# Altium integrated library Xilinx Automotive IQ.IntLib: 78 symbols (part 4 of 7)
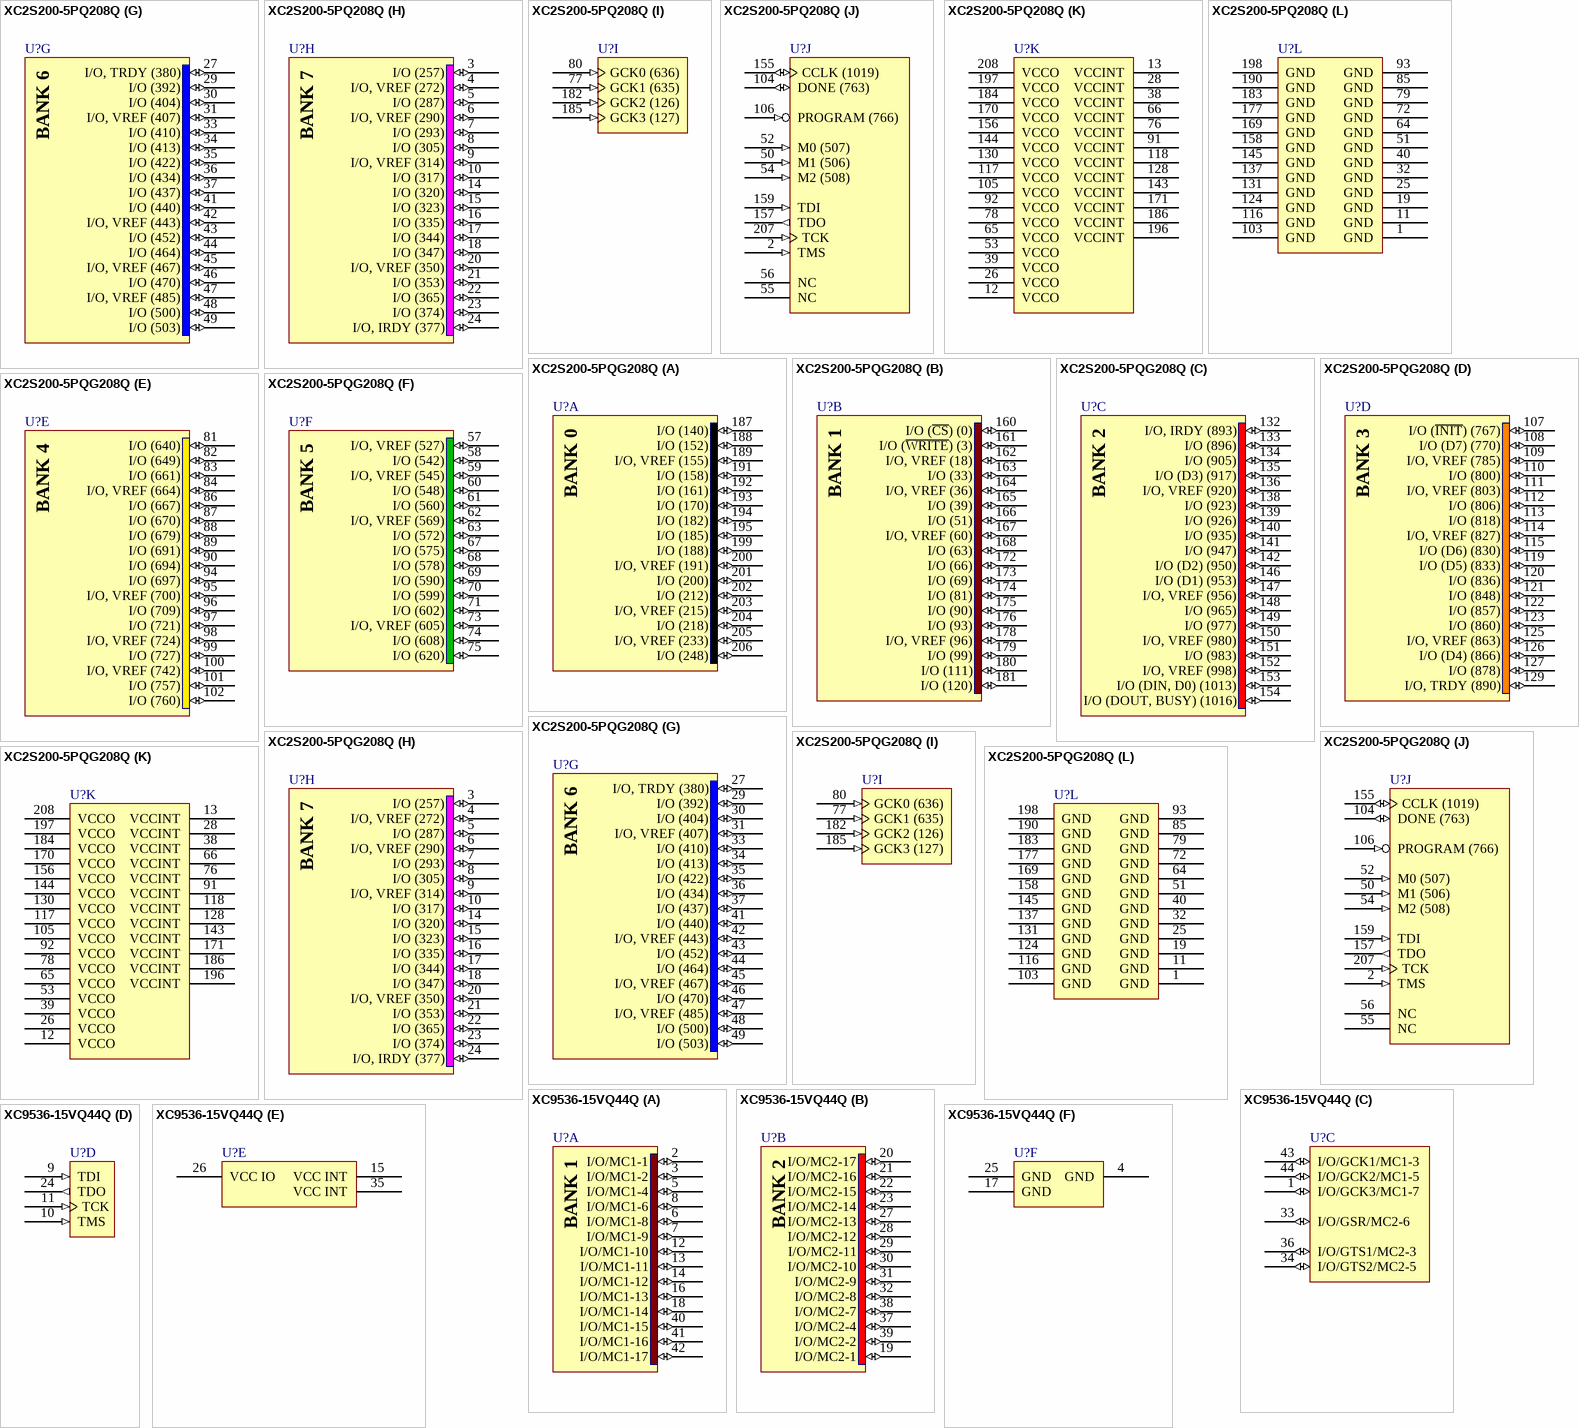
[diagram p40: symbols XC2S200-5PQ208Q to XC9536-15VQ44Q]

## XC2S200-5PQ208Q
designator U?
Automotive IQ Spartan-II 2.5V FPGA, 140 User I/Os, 208-Pin PQFP, Standard Performance, Q Grade; DatasheetVersion: ver1.4, Oct-2004; PackageVersion: ver1.2, Jun-2004; PackageReference: PQ208; PackageDescription: 208-Pin Plastic Quad Flat Pack (PQ208); Code_JEDEC: MS-029-FA-1; ComponentLink1Description: Manufacturer URL; ComponentLink1URL: http://www.xilinx.com/; ComponentLink2Description: Spartan-II Automotive IQ Datasheet; ComponentLink2URL: http://www.xilinx.com/support/documentation/data_sheets/ds105-1.pdf; ComponentLink3Description: Pinout; ComponentLink3URL: http://www.xilinx.com/support/documentation/data_sheets/ds001.pdf; ComponentLink4Description: PQ208 Package Drawing; ComponentLink4URL: http://www.xilinx.com/support/documentation/package_specs/pq208.pdf; ComponentLink5Description: Automotive IQ Documents; ComponentLink5URL: http://www.xilinx.com/support/documentation/automotive_iq_devices.htm
footprint PQ208_N (Shrink QFP, 208-Leads, Body 28x28mm, Pitch 0.5mm, IPC Medium Density)
footprint PQ208_L (Shrink QFP, 208-Leads, Body 28x28mm, Pitch 0.5mm, IPC High Density)
footprint PQ208_M (Shrink QFP, 208-Leads, Body 28x28mm, Pitch 0.5mm, IPC Low Density)
part A pins: 187 I/O (140) (io), 188 I/O (152) (io), 189 I/O, VREF (155) (io), 191 I/O (158) (io), 192 I/O (161) (io), 193 I/O (170) (io), 194 I/O (182) (io), 195 I/O (185) (io), 199 I/O (188) (io), 200 I/O, VREF (191) (io), 201 I/O (200) (io), 202 I/O (212) (io), 203 I/O, VREF (215) (io), 204 I/O (218) (io), 205 I/O, VREF (233) (io), 206 I/O (248) (io)
part B pins: 160 I/O (~{CS}) (0) (io), 161 I/O (~{WRITE}) (3) (io), 162 I/O, VREF (18) (io), 163 I/O (33) (io), 164 I/O, VREF (36) (io), 165 I/O (39) (io), 166 I/O (51) (io), 167 I/O, VREF (60) (io), 168 I/O (63) (io), 172 I/O (66) (io), 173 I/O (69) (io), 174 I/O (81) (io), 175 I/O (90) (io), 176 I/O (93) (io), 178 I/O, VREF (96) (io), 179 I/O (99) (io), 180 I/O (111) (io), 181 I/O (120) (io)
part C pins: 132 I/O, IRDY (893) (io), 133 I/O (896) (io), 134 I/O (905) (io), 135 I/O (D3) (917) (io), 136 I/O, VREF (920) (io), 138 I/O (923) (io), 139 I/O (926) (io), 140 I/O (935) (io), 141 I/O (947) (io), 142 I/O (D2) (950) (io), 146 I/O (D1) (953) (io), 147 I/O, VREF (956) (io), 148 I/O (965) (io), 149 I/O (977) (io), 150 I/O, VREF (980) (io), 151 I/O (983) (io), 152 I/O, VREF (998) (io), 153 I/O (DIN, D0) (1013) (io), 154 I/O (DOUT, BUSY) (1016) (io)
part D pins: 107 I/O (~{INIT}) (767) (io), 108 I/O (D7) (770) (io), 109 I/O, VREF (785) (io), 110 I/O (800) (io), 111 I/O, VREF (803) (io), 112 I/O (806) (io), 113 I/O (818) (io), 114 I/O, VREF (827) (io), 115 I/O (D6) (830) (io), 119 I/O (D5) (833) (io), 120 I/O (836) (io), 121 I/O (848) (io), 122 I/O (857) (io), 123 I/O (860) (io), 125 I/O, VREF (863) (io), 126 I/O (D4) (866) (io), 127 I/O (878) (io), 129 I/O, TRDY (890) (io)
part E pins: 81 I/O (640) (io), 82 I/O (649) (io), 83 I/O (661) (io), 84 I/O, VREF (664) (io), 86 I/O (667) (io), 87 I/O (670) (io), 88 I/O (679) (io), 89 I/O (691) (io), 90 I/O (694) (io), 94 I/O (697) (io), 95 I/O, VREF (700) (io), 96 I/O (709) (io), 97 I/O (721) (io), 98 I/O, VREF (724) (io), 99 I/O (727) (io), 100 I/O, VREF (742) (io), 101 I/O (757) (io), 102 I/O (760) (io)
part F pins: 57 I/O, VREF (527) (io), 58 I/O (542) (io), 59 I/O, VREF (545) (io), 60 I/O (548) (io), 61 I/O (560) (io), 62 I/O, VREF (569) (io), 63 I/O (572) (io), 67 I/O (575) (io), 68 I/O (578) (io), 69 I/O (590) (io), 70 I/O (599) (io), 71 I/O (602) (io), 73 I/O, VREF (605) (io), 74 I/O (608) (io), 75 I/O (620) (io)
part G pins: 27 I/O, TRDY (380) (io), 29 I/O (392) (io), 30 I/O (404) (io), 31 I/O, VREF (407) (io), 33 I/O (410) (io), 34 I/O (413) (io), 35 I/O (422) (io), 36 I/O (434) (io), 37 I/O (437) (io), 41 I/O (440) (io), 42 I/O, VREF (443) (io), 43 I/O (452) (io), 44 I/O (464) (io), 45 I/O, VREF (467) (io), 46 I/O (470) (io), 47 I/O, VREF (485) (io), 48 I/O (500) (io), 49 I/O (503) (io)
part H pins: 3 I/O (257) (io), 4 I/O, VREF (272) (io), 5 I/O (287) (io), 6 I/O, VREF (290) (io), 7 I/O (293) (io), 8 I/O (305) (io), 9 I/O, VREF (314) (io), 10 I/O (317) (io), 14 I/O (320) (io), 15 I/O (323) (io), 16 I/O (335) (io), 17 I/O (344) (io), 18 I/O (347) (io), 20 I/O, VREF (350) (io), 21 I/O (353) (io), 22 I/O (365) (io), 23 I/O (374) (io), 24 I/O, IRDY (377) (io)
part I pins: 77 GCK1 (635) (in), 80 GCK0 (636) (in), 182 GCK2 (126) (in), 185 GCK3 (127) (in)
part J pins: 2 TMS (in), 50 M1 (506) (in), 52 M0 (507) (in), 54 M2 (508) (in), 55 NC, 56 NC, 104 DONE (763) (io), 106 PROGRAM (766) (in), 155 CCLK (1019) (io), 157 TDO (out), 159 TDI (in), 207 TCK (in)
part K pins: 12 VCCO (power), 13 VCCINT (power), 26 VCCO (power), 28 VCCINT (power), 38 VCCINT (power), 39 VCCO (power), 53 VCCO (power), 65 VCCO (power), 66 VCCINT (power), 76 VCCINT (power), 78 VCCO (power), 91 VCCINT (power), 92 VCCO (power), 105 VCCO (power), 117 VCCO (power), 118 VCCINT (power), 128 VCCINT (power), 130 VCCO (power), 143 VCCINT (power), 144 VCCO (power), 156 VCCO (power), 170 VCCO (power), 171 VCCINT (power), 184 VCCO (power), 186 VCCINT (power), 196 VCCINT (power), 197 VCCO (power), 208 VCCO (power)
part L pins: 1 GND (power), 11 GND (power), 19 GND (power), 25 GND (power), 32 GND (power), 40 GND (power), 51 GND (power), 64 GND (power), 72 GND (power), 79 GND (power), 85 GND (power), 93 GND (power), 103 GND (power), 116 GND (power), 124 GND (power), 131 GND (power), 137 GND (power), 145 GND (power), 158 GND (power), 169 GND (power), 177 GND (power), 183 GND (power), 190 GND (power), 198 GND (power)
part A text: BANK 0
part B text: BANK 1
part C text: BANK 2
part D text: BANK 3
part E text: BANK 4
part F text: BANK 5
part G text: BANK 6
part H text: BANK 7

## XC2S200-5PQG208Q
designator U?
Automotive IQ Spartan-II 2.5V FPGA, 140 User I/Os, 208-Pin PQFP, Standard Performance, Q Grade, Pb-Free; DatasheetVersion: ver1.4, Oct-2004; PackageVersion: ver1.2, Jun-2004; PackageReference: PQG208; PackageDescription: 208-Pin Plastic Quad Flat Pack (PQG208) - Pb-Free; Code_JEDEC: MS-029-FA-1; ComponentLink1Description: Manufacturer URL; ComponentLink1URL: http://www.xilinx.com/; ComponentLink2Description: Spartan-II Automotive IQ Datasheet; ComponentLink2URL: http://www.xilinx.com/support/documentation/data_sheets/ds105-1.pdf; ComponentLink3Description: Pinout; ComponentLink3URL: http://www.xilinx.com/support/documentation/data_sheets/ds001.pdf; ComponentLink4Description: PQG208 Package Drawing; ComponentLink4URL: http://www.xilinx.com/support/documentation/package_specs/pq208.pdf; ComponentLink5Description: Automotive IQ Documents; ComponentLink5URL: http://www.xilinx.com/support/documentation/automotive_iq_devices.htm
footprint PQG208_N (Shrink QFP, 208-Leads, Body 28x28mm, Pitch 0.5mm, IPC Medium Density)
footprint PQG208_L (Shrink QFP, 208-Leads, Body 28x28mm, Pitch 0.5mm, IPC High Density)
footprint PQG208_M (Shrink QFP, 208-Leads, Body 28x28mm, Pitch 0.5mm, IPC Low Density)
part A pins: 187 I/O (140) (io), 188 I/O (152) (io), 189 I/O, VREF (155) (io), 191 I/O (158) (io), 192 I/O (161) (io), 193 I/O (170) (io), 194 I/O (182) (io), 195 I/O (185) (io), 199 I/O (188) (io), 200 I/O, VREF (191) (io), 201 I/O (200) (io), 202 I/O (212) (io), 203 I/O, VREF (215) (io), 204 I/O (218) (io), 205 I/O, VREF (233) (io), 206 I/O (248) (io)
part B pins: 160 I/O (~{CS}) (0) (io), 161 I/O (~{WRITE}) (3) (io), 162 I/O, VREF (18) (io), 163 I/O (33) (io), 164 I/O, VREF (36) (io), 165 I/O (39) (io), 166 I/O (51) (io), 167 I/O, VREF (60) (io), 168 I/O (63) (io), 172 I/O (66) (io), 173 I/O (69) (io), 174 I/O (81) (io), 175 I/O (90) (io), 176 I/O (93) (io), 178 I/O, VREF (96) (io), 179 I/O (99) (io), 180 I/O (111) (io), 181 I/O (120) (io)
part C pins: 132 I/O, IRDY (893) (io), 133 I/O (896) (io), 134 I/O (905) (io), 135 I/O (D3) (917) (io), 136 I/O, VREF (920) (io), 138 I/O (923) (io), 139 I/O (926) (io), 140 I/O (935) (io), 141 I/O (947) (io), 142 I/O (D2) (950) (io), 146 I/O (D1) (953) (io), 147 I/O, VREF (956) (io), 148 I/O (965) (io), 149 I/O (977) (io), 150 I/O, VREF (980) (io), 151 I/O (983) (io), 152 I/O, VREF (998) (io), 153 I/O (DIN, D0) (1013) (io), 154 I/O (DOUT, BUSY) (1016) (io)
part D pins: 107 I/O (~{INIT}) (767) (io), 108 I/O (D7) (770) (io), 109 I/O, VREF (785) (io), 110 I/O (800) (io), 111 I/O, VREF (803) (io), 112 I/O (806) (io), 113 I/O (818) (io), 114 I/O, VREF (827) (io), 115 I/O (D6) (830) (io), 119 I/O (D5) (833) (io), 120 I/O (836) (io), 121 I/O (848) (io), 122 I/O (857) (io), 123 I/O (860) (io), 125 I/O, VREF (863) (io), 126 I/O (D4) (866) (io), 127 I/O (878) (io), 129 I/O, TRDY (890) (io)
part E pins: 81 I/O (640) (io), 82 I/O (649) (io), 83 I/O (661) (io), 84 I/O, VREF (664) (io), 86 I/O (667) (io), 87 I/O (670) (io), 88 I/O (679) (io), 89 I/O (691) (io), 90 I/O (694) (io), 94 I/O (697) (io), 95 I/O, VREF (700) (io), 96 I/O (709) (io), 97 I/O (721) (io), 98 I/O, VREF (724) (io), 99 I/O (727) (io), 100 I/O, VREF (742) (io), 101 I/O (757) (io), 102 I/O (760) (io)
part F pins: 57 I/O, VREF (527) (io), 58 I/O (542) (io), 59 I/O, VREF (545) (io), 60 I/O (548) (io), 61 I/O (560) (io), 62 I/O, VREF (569) (io), 63 I/O (572) (io), 67 I/O (575) (io), 68 I/O (578) (io), 69 I/O (590) (io), 70 I/O (599) (io), 71 I/O (602) (io), 73 I/O, VREF (605) (io), 74 I/O (608) (io), 75 I/O (620) (io)
part G pins: 27 I/O, TRDY (380) (io), 29 I/O (392) (io), 30 I/O (404) (io), 31 I/O, VREF (407) (io), 33 I/O (410) (io), 34 I/O (413) (io), 35 I/O (422) (io), 36 I/O (434) (io), 37 I/O (437) (io), 41 I/O (440) (io), 42 I/O, VREF (443) (io), 43 I/O (452) (io), 44 I/O (464) (io), 45 I/O, VREF (467) (io), 46 I/O (470) (io), 47 I/O, VREF (485) (io), 48 I/O (500) (io), 49 I/O (503) (io)
part H pins: 3 I/O (257) (io), 4 I/O, VREF (272) (io), 5 I/O (287) (io), 6 I/O, VREF (290) (io), 7 I/O (293) (io), 8 I/O (305) (io), 9 I/O, VREF (314) (io), 10 I/O (317) (io), 14 I/O (320) (io), 15 I/O (323) (io), 16 I/O (335) (io), 17 I/O (344) (io), 18 I/O (347) (io), 20 I/O, VREF (350) (io), 21 I/O (353) (io), 22 I/O (365) (io), 23 I/O (374) (io), 24 I/O, IRDY (377) (io)
part I pins: 77 GCK1 (635) (in), 80 GCK0 (636) (in), 182 GCK2 (126) (in), 185 GCK3 (127) (in)
part J pins: 2 TMS (in), 50 M1 (506) (in), 52 M0 (507) (in), 54 M2 (508) (in), 55 NC, 56 NC, 104 DONE (763) (io), 106 PROGRAM (766) (in), 155 CCLK (1019) (io), 157 TDO (out), 159 TDI (in), 207 TCK (in)
part K pins: 12 VCCO (power), 13 VCCINT (power), 26 VCCO (power), 28 VCCINT (power), 38 VCCINT (power), 39 VCCO (power), 53 VCCO (power), 65 VCCO (power), 66 VCCINT (power), 76 VCCINT (power), 78 VCCO (power), 91 VCCINT (power), 92 VCCO (power), 105 VCCO (power), 117 VCCO (power), 118 VCCINT (power), 128 VCCINT (power), 130 VCCO (power), 143 VCCINT (power), 144 VCCO (power), 156 VCCO (power), 170 VCCO (power), 171 VCCINT (power), 184 VCCO (power), 186 VCCINT (power), 196 VCCINT (power), 197 VCCO (power), 208 VCCO (power)
part L pins: 1 GND (power), 11 GND (power), 19 GND (power), 25 GND (power), 32 GND (power), 40 GND (power), 51 GND (power), 64 GND (power), 72 GND (power), 79 GND (power), 85 GND (power), 93 GND (power), 103 GND (power), 116 GND (power), 124 GND (power), 131 GND (power), 137 GND (power), 145 GND (power), 158 GND (power), 169 GND (power), 177 GND (power), 183 GND (power), 190 GND (power), 198 GND (power)
part A text: BANK 0
part B text: BANK 1
part C text: BANK 2
part D text: BANK 3
part E text: BANK 4
part F text: BANK 5
part G text: BANK 6
part H text: BANK 7

## XC9536-15VQ44Q
designator U?
Automotive IQ XC9500 5V, 36 Macrocell CPLD, 34 User I/Os, 44-Pin VQFP, Q Grade; DatasheetVersion: ver1.2, Oct-2004; PackageVersion: ver1.2, Jun-2004; PackageReference: VQ44; PackageDescription: 44-Pin Very Thin Quad Flat Pack (VQ44); Code_JEDEC: MS-026-ACB; ComponentLink1Description: Manufacturer URL; ComponentLink1URL: http://www.xilinx.com/; ComponentLink2Description: XC9500 Automotive IQ Datasheet; ComponentLink2URL: http://www.xilinx.com/support/documentation/data_sheets/ds120-1.pdf; ComponentLink3Description: Pinout; ComponentLink3URL: http://www.xilinx.com/support/documentation/data_sheets/ds064.pdf; ComponentLink4Description: VQ44 Package Drawing; ComponentLink4URL: http://www.xilinx.com/support/documentation/package_specs/vq44.pdf; ComponentLink5Description: Automotive IQ Documents; ComponentLink5URL: http://www.xilinx.com/support/documentation/automotive_iq_devices.htm
footprint VQ44_N (Thin QFP, 44-Leads, Body 10x10mm, Pitch 0.8mm, IPC Medium Density)
footprint VQ44_L (Thin QFP, 44-Leads, Body 10x10mm, Pitch 0.8mm, IPC High Density)
footprint VQ44_M (Thin QFP, 44-Leads, Body 10x10mm, Pitch 0.8mm, IPC Low Density)
part A pins: 2 I/O/MC1-1 (io), 3 I/O/MC1-2 (io), 5 I/O/MC1-4 (io), 6 I/O/MC1-8 (io), 7 I/O/MC1-9 (io), 8 I/O/MC1-6 (io), 12 I/O/MC1-10 (io), 13 I/O/MC1-11 (io), 14 I/O/MC1-12 (io), 16 I/O/MC1-13 (io), 18 I/O/MC1-14 (io), 40 I/O/MC1-15 (io), 41 I/O/MC1-16 (io), 42 I/O/MC1-17 (io)
part B pins: 19 I/O/MC2-1 (io), 20 I/O/MC2-17 (io), 21 I/O/MC2-16 (io), 22 I/O/MC2-15 (io), 23 I/O/MC2-14 (io), 27 I/O/MC2-13 (io), 28 I/O/MC2-12 (io), 29 I/O/MC2-11 (io), 30 I/O/MC2-10 (io), 31 I/O/MC2-9 (io), 32 I/O/MC2-8 (io), 37 I/O/MC2-4 (io), 38 I/O/MC2-7 (io), 39 I/O/MC2-2 (io)
part C pins: 1 I/O/GCK3/MC1-7 (io), 33 I/O/GSR/MC2-6 (io), 34 I/O/GTS2/MC2-5 (io), 36 I/O/GTS1/MC2-3 (io), 43 I/O/GCK1/MC1-3 (io), 44 I/O/GCK2/MC1-5 (io)
part D pins: 9 TDI (in), 10 TMS (in), 11 TCK (in), 24 TDO (out)
part E pins: 15 VCC INT (power), 26 VCC IO (power), 35 VCC INT (power)
part F pins: 4 GND (power), 17 GND (power), 25 GND (power)
part A text: BANK 1
part B text: BANK 2

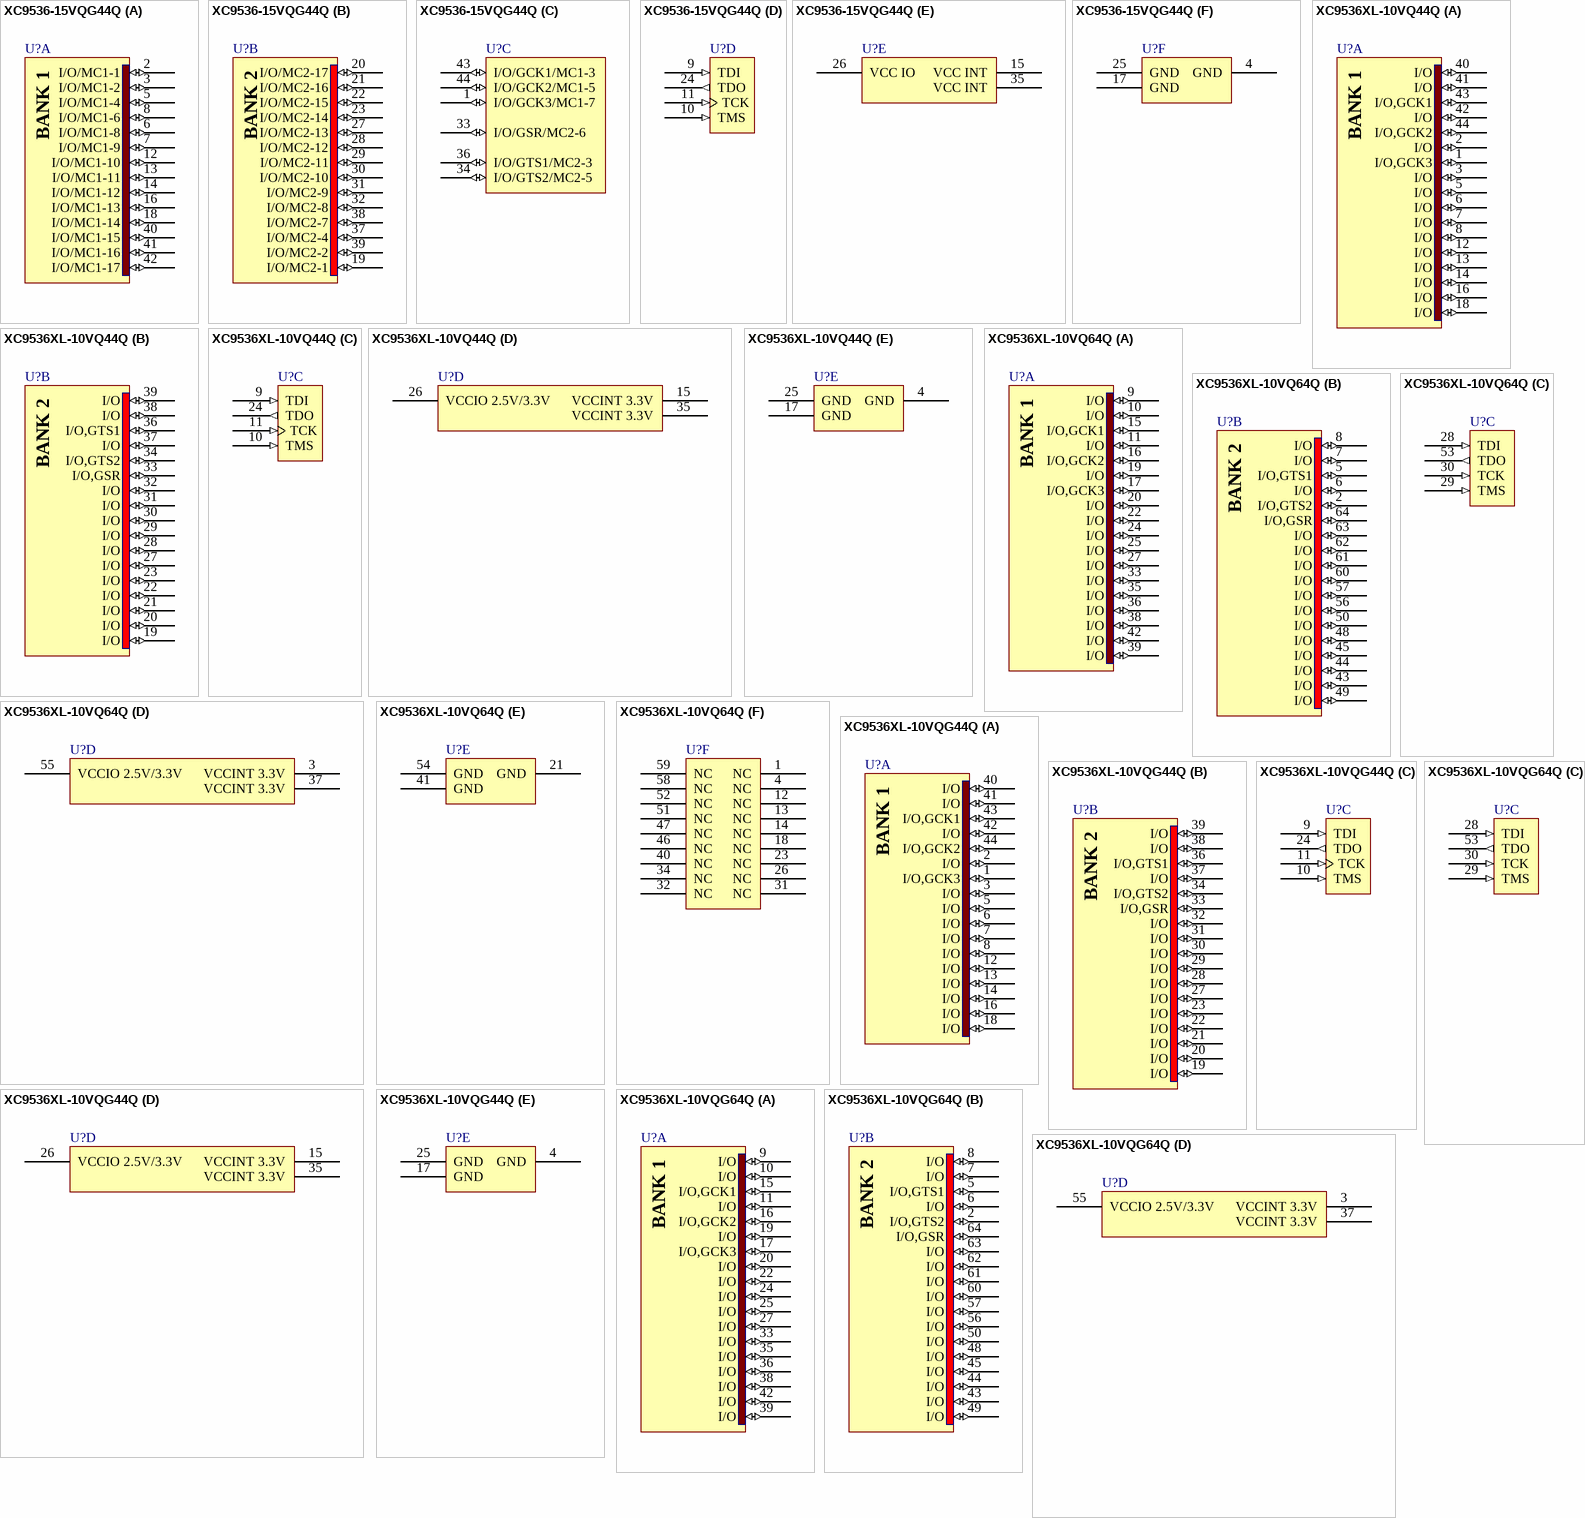
[diagram p16: symbols XC9536-15VQG44Q to XC9536XL-10VQG64Q]

## XC9536-15VQG44Q
designator U?
Automotive IQ XC9500 5V, 36 Macrocell CPLD, 34 User I/Os, 44-Pin VQFP, Q Grade, Pb-Free; DatasheetVersion: ver1.2, Oct-2004; PackageVersion: ver1.2, Jun-2004; PackageReference: VQG44; PackageDescription: 44-Pin Very Thin Quad Flat Pack (VQG44) - Pb-Free; Code_JEDEC: MS-026-ACB; ComponentLink1Description: Manufacturer URL; ComponentLink1URL: http://www.xilinx.com/; ComponentLink2Description: XC9500 Automotive IQ Datasheet; ComponentLink2URL: http://www.xilinx.com/support/documentation/data_sheets/ds120-1.pdf; ComponentLink3Description: Pinout; ComponentLink3URL: http://www.xilinx.com/support/documentation/data_sheets/ds064.pdf; ComponentLink4Description: VQG44 Package Drawing; ComponentLink4URL: http://www.xilinx.com/support/documentation/package_specs/vq44.pdf; ComponentLink5Description: Automotive IQ Documents; ComponentLink5URL: http://www.xilinx.com/support/documentation/automotive_iq_devices.htm
footprint VQG44_N (Thin QFP, 44-Leads, Body 10x10mm, Pitch 0.8mm, IPC Medium Density)
footprint VQG44_L (Thin QFP, 44-Leads, Body 10x10mm, Pitch 0.8mm, IPC High Density)
footprint VQG44_M (Thin QFP, 44-Leads, Body 10x10mm, Pitch 0.8mm, IPC Low Density)
part A pins: 2 I/O/MC1-1 (io), 3 I/O/MC1-2 (io), 5 I/O/MC1-4 (io), 6 I/O/MC1-8 (io), 7 I/O/MC1-9 (io), 8 I/O/MC1-6 (io), 12 I/O/MC1-10 (io), 13 I/O/MC1-11 (io), 14 I/O/MC1-12 (io), 16 I/O/MC1-13 (io), 18 I/O/MC1-14 (io), 40 I/O/MC1-15 (io), 41 I/O/MC1-16 (io), 42 I/O/MC1-17 (io)
part B pins: 19 I/O/MC2-1 (io), 20 I/O/MC2-17 (io), 21 I/O/MC2-16 (io), 22 I/O/MC2-15 (io), 23 I/O/MC2-14 (io), 27 I/O/MC2-13 (io), 28 I/O/MC2-12 (io), 29 I/O/MC2-11 (io), 30 I/O/MC2-10 (io), 31 I/O/MC2-9 (io), 32 I/O/MC2-8 (io), 37 I/O/MC2-4 (io), 38 I/O/MC2-7 (io), 39 I/O/MC2-2 (io)
part C pins: 1 I/O/GCK3/MC1-7 (io), 33 I/O/GSR/MC2-6 (io), 34 I/O/GTS2/MC2-5 (io), 36 I/O/GTS1/MC2-3 (io), 43 I/O/GCK1/MC1-3 (io), 44 I/O/GCK2/MC1-5 (io)
part D pins: 9 TDI (in), 10 TMS (in), 11 TCK (in), 24 TDO (out)
part E pins: 15 VCC INT (power), 26 VCC IO (power), 35 VCC INT (power)
part F pins: 4 GND (power), 17 GND (power), 25 GND (power)
part A text: BANK 1
part B text: BANK 2

## XC9536XL-10VQ44Q
designator U?
Automotive IQ FastFLASH XC900XL, 3.3V High-Performance CPLD with 36 Macrocells, 44-Pin VQFP, Q Grade; DatasheetVersion: ver1.3, May-2004; PackageVersion: ver1.2, Jun-2004; PackageReference: VQ44; PackageDescription: 44-Pin Very Thin Quad Flat Pack (VQ44); Code_JEDEC: MS-026-ACB; ComponentLink1Description: Manufacturer URL; ComponentLink1URL: http://www.xilinx.com/; ComponentLink2Description: XC9500XL Automotive IQ Datasheet; ComponentLink2URL: http://www.xilinx.com/support/documentation/data_sheets/ds108-1.pdf; ComponentLink3Description: Pinout; ComponentLink3URL: http://www.xilinx.com/support/documentation/data_sheets/ds058.pdf; ComponentLink4Description: VQ44 Package Drawing; ComponentLink4URL: http://www.xilinx.com/support/documentation/package_specs/vq44.pdf; ComponentLink5Description: Automotive IQ Documents; ComponentLink5URL: http://www.xilinx.com/support/documentation/automotive_iq_devices.htm
footprint VQ44_N (Thin QFP, 44-Leads, Body 10x10mm, Pitch 0.8mm, IPC Medium Density)
footprint VQ44_L (Thin QFP, 44-Leads, Body 10x10mm, Pitch 0.8mm, IPC High Density)
footprint VQ44_M (Thin QFP, 44-Leads, Body 10x10mm, Pitch 0.8mm, IPC Low Density)
part A pins: 1 I/O,GCK3 (io), 2 I/O (io), 3 I/O (io), 5 I/O (io), 6 I/O (io), 7 I/O (io), 8 I/O (io), 12 I/O (io), 13 I/O (io), 14 I/O (io), 16 I/O (io), 18 I/O (io), 40 I/O (io), 41 I/O (io), 42 I/O (io), 43 I/O,GCK1 (io), 44 I/O,GCK2 (io)
part B pins: 19 I/O (io), 20 I/O (io), 21 I/O (io), 22 I/O (io), 23 I/O (io), 27 I/O (io), 28 I/O (io), 29 I/O (io), 30 I/O (io), 31 I/O (io), 32 I/O (io), 33 I/O,GSR (io), 34 I/O,GTS2 (io), 36 I/O,GTS1 (io), 37 I/O (io), 38 I/O (io), 39 I/O (io)
part C pins: 9 TDI (in), 10 TMS (in), 11 TCK (in), 24 TDO (out)
part D pins: 15 VCCINT 3.3V (power), 26 VCCIO 2.5V/3.3V (power), 35 VCCINT 3.3V (power)
part E pins: 4 GND (power), 17 GND (power), 25 GND (power)
part A text: BANK 1
part B text: BANK 2

## XC9536XL-10VQ64Q
designator U?
Automotive IQ FastFLASH XC900XL, 3.3V High-Performance CPLD with 36 Macrocells, 64-Pin VQFP, Q Grade; DatasheetVersion: ver1.3, May-2004; PackageVersion: ver1.2, Jun-2004; PackageReference: VQ64; PackageDescription: 64-Pin Very Thin Quad Flat Pack (VQ64); Code_JEDEC: MS-026-ACD; ComponentLink1Description: Manufacturer URL; ComponentLink1URL: http://www.xilinx.com/; ComponentLink2Description: XC9500XL Automotive IQ Datasheet; ComponentLink2URL: http://www.xilinx.com/support/documentation/data_sheets/ds108-1.pdf; ComponentLink3Description: Pinout; ComponentLink3URL: http://www.xilinx.com/support/documentation/data_sheets/ds058.pdf; ComponentLink4Description: VQ64 Package Drawing; ComponentLink4URL: http://www.xilinx.com/support/documentation/package_specs/vq64.pdf; ComponentLink5Description: Automotive IQ Documents; ComponentLink5URL: http://www.xilinx.com/support/documentation/automotive_iq_devices.htm
footprint VQ64_N (Thin QFP, 64-Leads, Body 10x10mm, Pitch 0.5mm, IPC Medium Density)
footprint VQ64_L (Thin QFP, 64-Leads, Body 10x10mm, Pitch 0.5mm, IPC High Density)
footprint VQ64_M (Thin QFP, 64-Leads, Body 10x10mm, Pitch 0.5mm, IPC Low Density)
part A pins: 9 I/O (io), 10 I/O (io), 11 I/O (io), 15 I/O,GCK1 (io), 16 I/O,GCK2 (io), 17 I/O,GCK3 (io), 19 I/O (io), 20 I/O (io), 22 I/O (io), 24 I/O (io), 25 I/O (io), 27 I/O (io), 33 I/O (io), 35 I/O (io), 36 I/O (io), 38 I/O (io), 39 I/O (io), 42 I/O (io)
part B pins: 2 I/O,GTS2 (io), 5 I/O,GTS1 (io), 6 I/O (io), 7 I/O (io), 8 I/O (io), 43 I/O (io), 44 I/O (io), 45 I/O (io), 48 I/O (io), 49 I/O (io), 50 I/O (io), 56 I/O (io), 57 I/O (io), 60 I/O (io), 61 I/O (io), 62 I/O (io), 63 I/O (io), 64 I/O,GSR (io)
part C pins: 28 TDI (in), 29 TMS (in), 30 TCK (in), 53 TDO (out)
part D pins: 3 VCCINT 3.3V (power), 37 VCCINT 3.3V (power), 55 VCCIO 2.5V/3.3V (power)
part E pins: 21 GND (power), 41 GND (power), 54 GND (power)
part F pins: 1 NC, 4 NC, 12 NC, 13 NC, 14 NC, 18 NC, 23 NC, 26 NC, 31 NC, 32 NC, 34 NC, 40 NC, 46 NC, 47 NC, 51 NC, 52 NC, 58 NC, 59 NC
part A text: BANK 1
part B text: BANK 2

## XC9536XL-10VQG44Q
designator U?
Automotive IQ FastFLASH XC900XL, 3.3V High-Performance CPLD with 36 Macrocells, 44-Pin VQFP, Q Grade, Pb-Free; DatasheetVersion: ver1.3, May-2004; PackageVersion: ver1.2, Jun-2004; PackageReference: VQG44; PackageDescription: 44-Pin Very Thin Quad Flat Pack (VQG44) - Pb-Free; Code_JEDEC: MS-026-ACB; ComponentLink1Description: Manufacturer URL; ComponentLink1URL: http://www.xilinx.com/; ComponentLink2Description: XC9500XL Automotive IQ Datasheet; ComponentLink2URL: http://www.xilinx.com/support/documentation/data_sheets/ds108-1.pdf; ComponentLink3Description: Pinout; ComponentLink3URL: http://www.xilinx.com/support/documentation/data_sheets/ds058.pdf; ComponentLink4Description: VQG44 Package Drawing; ComponentLink4URL: http://www.xilinx.com/support/documentation/package_specs/vq44.pdf; ComponentLink5Description: Automotive IQ Documents; ComponentLink5URL: http://www.xilinx.com/support/documentation/automotive_iq_devices.htm
footprint VQG44_N (Thin QFP, 44-Leads, Body 10x10mm, Pitch 0.8mm, IPC Medium Density)
footprint VQG44_L (Thin QFP, 44-Leads, Body 10x10mm, Pitch 0.8mm, IPC High Density)
footprint VQG44_M (Thin QFP, 44-Leads, Body 10x10mm, Pitch 0.8mm, IPC Low Density)
part A pins: 1 I/O,GCK3 (io), 2 I/O (io), 3 I/O (io), 5 I/O (io), 6 I/O (io), 7 I/O (io), 8 I/O (io), 12 I/O (io), 13 I/O (io), 14 I/O (io), 16 I/O (io), 18 I/O (io), 40 I/O (io), 41 I/O (io), 42 I/O (io), 43 I/O,GCK1 (io), 44 I/O,GCK2 (io)
part B pins: 19 I/O (io), 20 I/O (io), 21 I/O (io), 22 I/O (io), 23 I/O (io), 27 I/O (io), 28 I/O (io), 29 I/O (io), 30 I/O (io), 31 I/O (io), 32 I/O (io), 33 I/O,GSR (io), 34 I/O,GTS2 (io), 36 I/O,GTS1 (io), 37 I/O (io), 38 I/O (io), 39 I/O (io)
part C pins: 9 TDI (in), 10 TMS (in), 11 TCK (in), 24 TDO (out)
part D pins: 15 VCCINT 3.3V (power), 26 VCCIO 2.5V/3.3V (power), 35 VCCINT 3.3V (power)
part E pins: 4 GND (power), 17 GND (power), 25 GND (power)
part A text: BANK 1
part B text: BANK 2

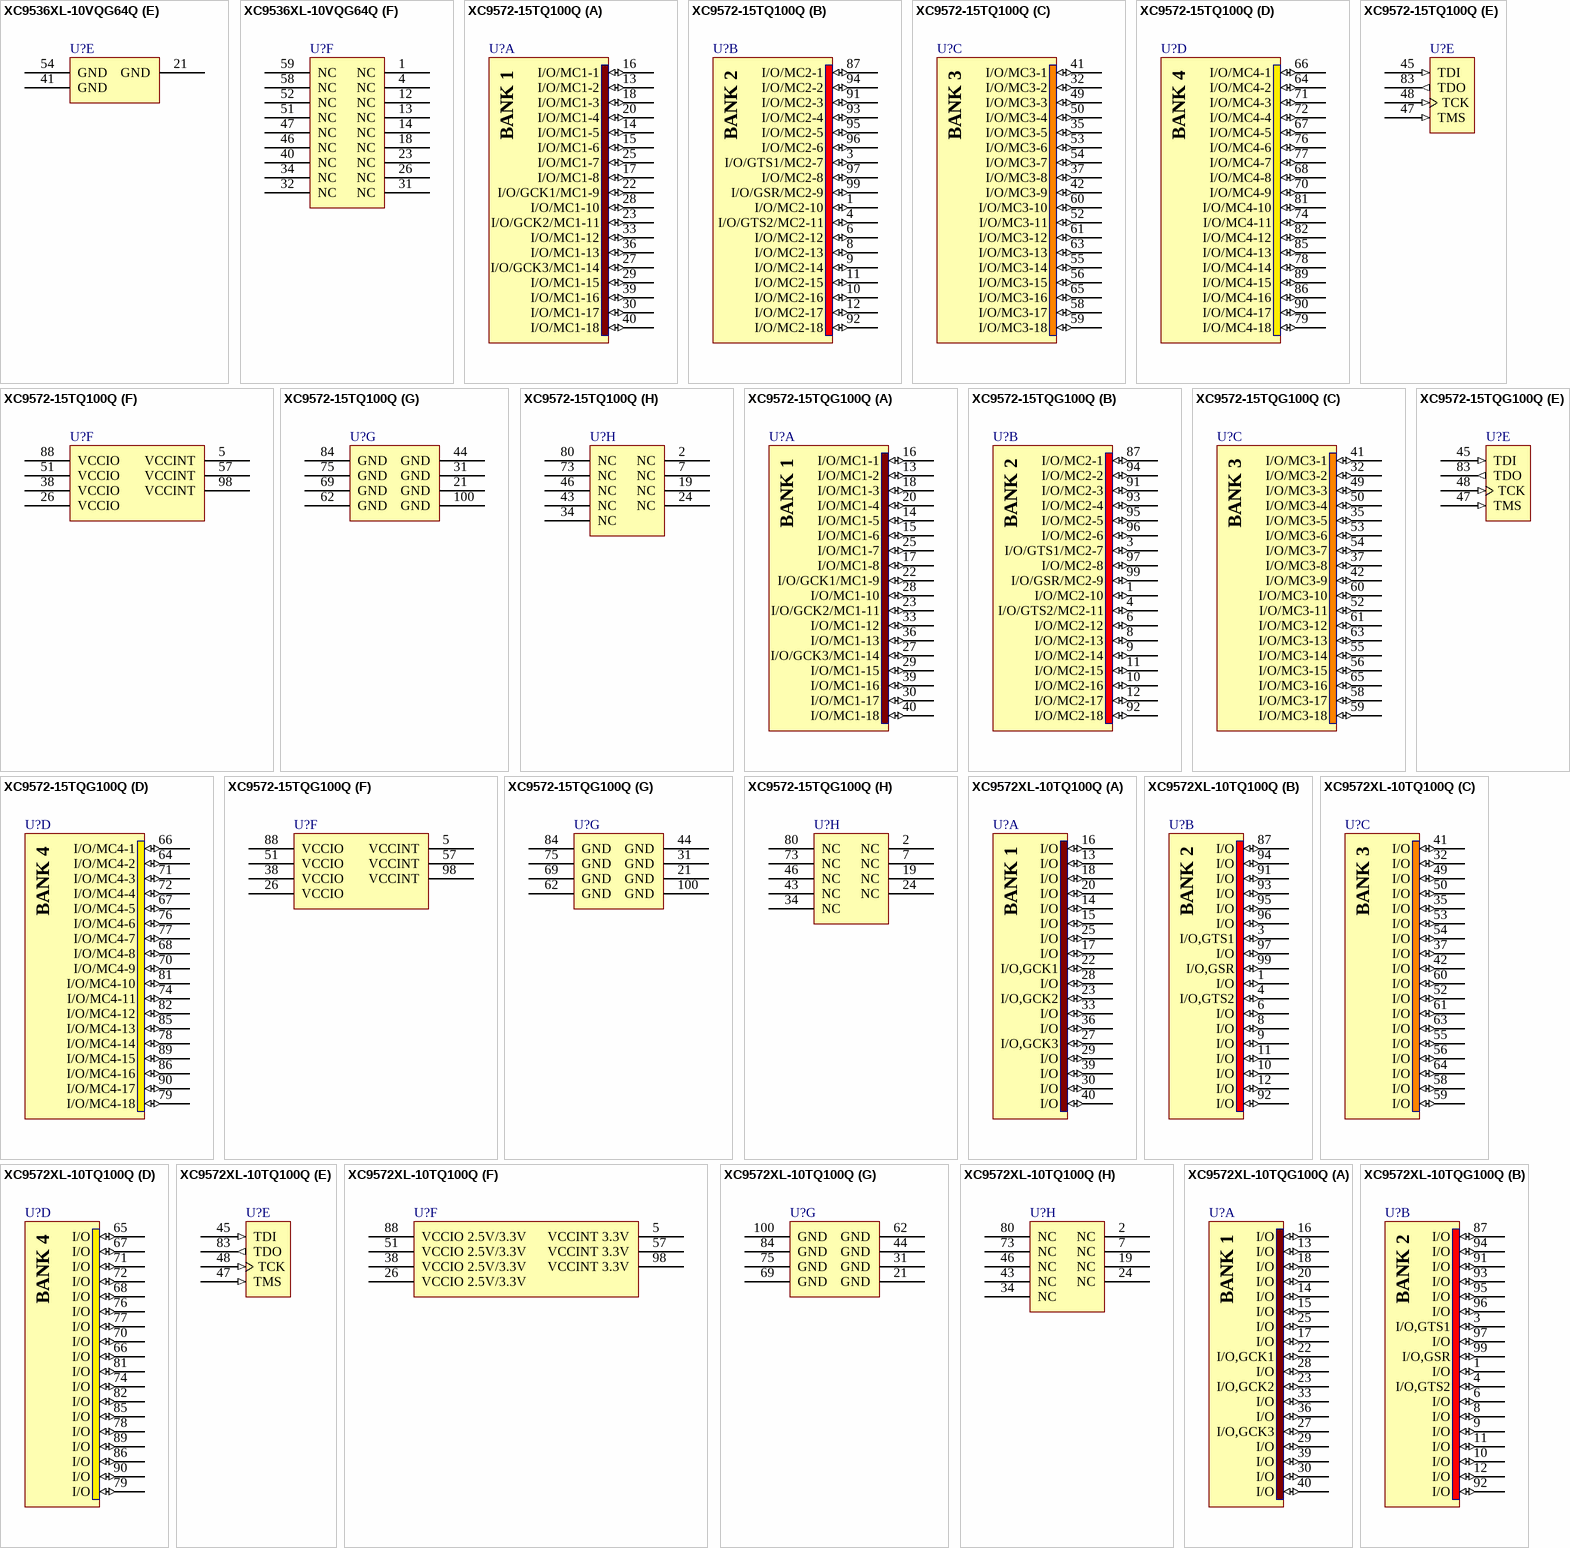
[diagram p17: symbols XC9536XL-10VQG64Q to XC9572XL-10TQG100Q]

## XC9536XL-10VQG64Q
designator U?
Automotive IQ FastFLASH XC900XL, 3.3V High-Performance CPLD with 36 Macrocells, 64-Pin VQFP, Q Grade, Pb-Free; DatasheetVersion: ver1.3, May-2004; PackageVersion: ver1.2, Jun-2004; PackageReference: VQG64; PackageDescription: 64-Pin Very Thin Quad Flat Pack (VQG64) - Pb-Free; Code_JEDEC: MS-026-ACD; ComponentLink1Description: Manufacturer URL; ComponentLink1URL: http://www.xilinx.com/; ComponentLink2Description: XC9500XL Automotive IQ Datasheet; ComponentLink2URL: http://www.xilinx.com/support/documentation/data_sheets/ds108-1.pdf; ComponentLink3Description: Pinout; ComponentLink3URL: http://www.xilinx.com/support/documentation/data_sheets/ds058.pdf; ComponentLink4Description: VQG64 Package Drawing; ComponentLink4URL: http://www.xilinx.com/support/documentation/package_specs/vq64.pdf; ComponentLink5Description: Automotive IQ Documents; ComponentLink5URL: http://www.xilinx.com/support/documentation/automotive_iq_devices.htm
footprint VQG64_N (Thin QFP, 64-Leads, Body 10x10mm, Pitch 0.5mm, IPC Medium Density)
footprint VQG64_L (Thin QFP, 64-Leads, Body 10x10mm, Pitch 0.5mm, IPC High Density)
footprint VQG64_M (Thin QFP, 64-Leads, Body 10x10mm, Pitch 0.5mm, IPC Low Density)
part A pins: 9 I/O (io), 10 I/O (io), 11 I/O (io), 15 I/O,GCK1 (io), 16 I/O,GCK2 (io), 17 I/O,GCK3 (io), 19 I/O (io), 20 I/O (io), 22 I/O (io), 24 I/O (io), 25 I/O (io), 27 I/O (io), 33 I/O (io), 35 I/O (io), 36 I/O (io), 38 I/O (io), 39 I/O (io), 42 I/O (io)
part B pins: 2 I/O,GTS2 (io), 5 I/O,GTS1 (io), 6 I/O (io), 7 I/O (io), 8 I/O (io), 43 I/O (io), 44 I/O (io), 45 I/O (io), 48 I/O (io), 49 I/O (io), 50 I/O (io), 56 I/O (io), 57 I/O (io), 60 I/O (io), 61 I/O (io), 62 I/O (io), 63 I/O (io), 64 I/O,GSR (io)
part C pins: 28 TDI (in), 29 TMS (in), 30 TCK (in), 53 TDO (out)
part D pins: 3 VCCINT 3.3V (power), 37 VCCINT 3.3V (power), 55 VCCIO 2.5V/3.3V (power)
part E pins: 21 GND (power), 41 GND (power), 54 GND (power)
part F pins: 1 NC, 4 NC, 12 NC, 13 NC, 14 NC, 18 NC, 23 NC, 26 NC, 31 NC, 32 NC, 34 NC, 40 NC, 46 NC, 47 NC, 51 NC, 52 NC, 58 NC, 59 NC
part A text: BANK 1
part B text: BANK 2

## XC9572-15TQ100Q
designator U?
Automotive IQ XC9500 5V, 72 Macrocell CPLD, 72 User I/Os, 100-Pin TQFP, Q Grade; DatasheetVersion: ver1.2, Oct-2004; PackageVersion: ver1.2, Jun-2004; PackageReference: TQ100; PackageDescription: 100-Pin Thin Quad Flat Pack (TQ100); ComponentLink1Description: Manufacturer URL; ComponentLink1URL: http://www.xilinx.com/; ComponentLink2Description: XC9500 Automotive IQ Datasheet; ComponentLink2URL: http://www.xilinx.com/support/documentation/data_sheets/ds120-1.pdf; ComponentLink3Description: Pinout; ComponentLink3URL: http://www.xilinx.com/support/documentation/data_sheets/ds065.pdf; ComponentLink4Description: TQ100 Package Drawing; ComponentLink4URL: http://www.xilinx.com/support/documentation/package_specs/tq100.pdf; ComponentLink5Description: Automotive IQ Documents; ComponentLink5URL: http://www.xilinx.com/support/documentation/automotive_iq_devices.htm
footprint TQ100_N (Thin QFP, 100-Leads, Body 14x14mm, Pitch 0.5mm, IPC Medium Density)
footprint TQ100_L (Thin QFP, 100-Leads, Body 14x14mm, Pitch 0.5mm, IPC High Density)
footprint TQ100_M (Thin QFP, 100-Leads, Body 14x14mm, Pitch 0.5mm, IPC Low Density)
part A pins: 13 I/O/MC1-2 (io), 14 I/O/MC1-5 (io), 15 I/O/MC1-6 (io), 16 I/O/MC1-1 (io), 17 I/O/MC1-8 (io), 18 I/O/MC1-3 (io), 20 I/O/MC1-4 (io), 22 I/O/GCK1/MC1-9 (io), 23 I/O/GCK2/MC1-11 (io), 25 I/O/MC1-7 (io), 27 I/O/GCK3/MC1-14 (io), 28 I/O/MC1-10 (io), 29 I/O/MC1-15 (io), 30 I/O/MC1-17 (io), 33 I/O/MC1-12 (io), 36 I/O/MC1-13 (io), 39 I/O/MC1-16 (io), 40 I/O/MC1-18 (io)
part B pins: 1 I/O/MC2-10 (io), 3 I/O/GTS1/MC2-7 (io), 4 I/O/GTS2/MC2-11 (io), 6 I/O/MC2-12 (io), 8 I/O/MC2-13 (io), 9 I/O/MC2-14 (io), 10 I/O/MC2-16 (io), 11 I/O/MC2-15 (io), 12 I/O/MC2-17 (io), 87 I/O/MC2-1 (io), 91 I/O/MC2-3 (io), 92 I/O/MC2-18 (io), 93 I/O/MC2-4 (io), 94 I/O/MC2-2 (io), 95 I/O/MC2-5 (io), 96 I/O/MC2-6 (io), 97 I/O/MC2-8 (io), 99 I/O/GSR/MC2-9 (io)
part C pins: 32 I/O/MC3-2 (io), 35 I/O/MC3-5 (io), 37 I/O/MC3-8 (io), 41 I/O/MC3-1 (io), 42 I/O/MC3-9 (io), 49 I/O/MC3-3 (io), 50 I/O/MC3-4 (io), 52 I/O/MC3-11 (io), 53 I/O/MC3-6 (io), 54 I/O/MC3-7 (io), 55 I/O/MC3-14 (io), 56 I/O/MC3-15 (io), 58 I/O/MC3-17 (io), 59 I/O/MC3-18 (io), 60 I/O/MC3-10 (io), 61 I/O/MC3-12 (io), 63 I/O/MC3-13 (io), 65 I/O/MC3-16 (io)
part D pins: 64 I/O/MC4-2 (io), 66 I/O/MC4-1 (io), 67 I/O/MC4-5 (io), 68 I/O/MC4-8 (io), 70 I/O/MC4-9 (io), 71 I/O/MC4-3 (io), 72 I/O/MC4-4 (io), 74 I/O/MC4-11 (io), 76 I/O/MC4-6 (io), 77 I/O/MC4-7 (io), 78 I/O/MC4-14 (io), 79 I/O/MC4-18 (io), 81 I/O/MC4-10 (io), 82 I/O/MC4-12 (io), 85 I/O/MC4-13 (io), 86 I/O/MC4-16 (io), 89 I/O/MC4-15 (io), 90 I/O/MC4-17 (io)
part E pins: 45 TDI (in), 47 TMS (in), 48 TCK (in), 83 TDO (out)
part F pins: 5 VCCINT (power), 26 VCCIO (power), 38 VCCIO (power), 51 VCCIO (power), 57 VCCINT (power), 88 VCCIO (power), 98 VCCINT (power)
part G pins: 21 GND (power), 31 GND (power), 44 GND (power), 62 GND (power), 69 GND (power), 75 GND (power), 84 GND (power), 100 GND (power)
part H pins: 2 NC, 7 NC, 19 NC, 24 NC, 34 NC, 43 NC, 46 NC, 73 NC, 80 NC
part A text: BANK 1
part B text: BANK 2
part C text: BANK 3
part D text: BANK 4

## XC9572-15TQG100Q
designator U?
Automotive IQ XC9500 5V, 72 Macrocell CPLD, 72 User I/Os, 100-Pin TQFP, Q Grade, Pb-Free; DatasheetVersion: ver1.2, Oct-2004; PackageVersion: ver1.2, Jun-2004; PackageReference: TQG100; PackageDescription: 100-Pin Thin Quad Flat Pack (TQG100) - Pb-Free; ComponentLink1Description: Manufacturer URL; ComponentLink1URL: http://www.xilinx.com/; ComponentLink2Description: XC9500 Automotive IQ Datasheet; ComponentLink2URL: http://www.xilinx.com/support/documentation/data_sheets/ds120-1.pdf; ComponentLink3Description: Pinout; ComponentLink3URL: http://www.xilinx.com/support/documentation/data_sheets/ds065.pdf; ComponentLink4Description: TQG100 Package Drawing; ComponentLink4URL: http://www.xilinx.com/support/documentation/package_specs/tq100.pdf; ComponentLink5Description: Automotive IQ Documents; ComponentLink5URL: http://www.xilinx.com/support/documentation/automotive_iq_devices.htm
footprint TQG100_N (Thin QFP, 100-Leads, Body 14x14mm, Pitch 0.5mm, IPC Medium Density)
footprint TQG100_L (Thin QFP, 100-Leads, Body 14x14mm, Pitch 0.5mm, IPC High Density)
footprint TQG100_M (Thin QFP, 100-Leads, Body 14x14mm, Pitch 0.5mm, IPC Low Density)
part A pins: 13 I/O/MC1-2 (io), 14 I/O/MC1-5 (io), 15 I/O/MC1-6 (io), 16 I/O/MC1-1 (io), 17 I/O/MC1-8 (io), 18 I/O/MC1-3 (io), 20 I/O/MC1-4 (io), 22 I/O/GCK1/MC1-9 (io), 23 I/O/GCK2/MC1-11 (io), 25 I/O/MC1-7 (io), 27 I/O/GCK3/MC1-14 (io), 28 I/O/MC1-10 (io), 29 I/O/MC1-15 (io), 30 I/O/MC1-17 (io), 33 I/O/MC1-12 (io), 36 I/O/MC1-13 (io), 39 I/O/MC1-16 (io), 40 I/O/MC1-18 (io)
part B pins: 1 I/O/MC2-10 (io), 3 I/O/GTS1/MC2-7 (io), 4 I/O/GTS2/MC2-11 (io), 6 I/O/MC2-12 (io), 8 I/O/MC2-13 (io), 9 I/O/MC2-14 (io), 10 I/O/MC2-16 (io), 11 I/O/MC2-15 (io), 12 I/O/MC2-17 (io), 87 I/O/MC2-1 (io), 91 I/O/MC2-3 (io), 92 I/O/MC2-18 (io), 93 I/O/MC2-4 (io), 94 I/O/MC2-2 (io), 95 I/O/MC2-5 (io), 96 I/O/MC2-6 (io), 97 I/O/MC2-8 (io), 99 I/O/GSR/MC2-9 (io)
part C pins: 32 I/O/MC3-2 (io), 35 I/O/MC3-5 (io), 37 I/O/MC3-8 (io), 41 I/O/MC3-1 (io), 42 I/O/MC3-9 (io), 49 I/O/MC3-3 (io), 50 I/O/MC3-4 (io), 52 I/O/MC3-11 (io), 53 I/O/MC3-6 (io), 54 I/O/MC3-7 (io), 55 I/O/MC3-14 (io), 56 I/O/MC3-15 (io), 58 I/O/MC3-17 (io), 59 I/O/MC3-18 (io), 60 I/O/MC3-10 (io), 61 I/O/MC3-12 (io), 63 I/O/MC3-13 (io), 65 I/O/MC3-16 (io)
part D pins: 64 I/O/MC4-2 (io), 66 I/O/MC4-1 (io), 67 I/O/MC4-5 (io), 68 I/O/MC4-8 (io), 70 I/O/MC4-9 (io), 71 I/O/MC4-3 (io), 72 I/O/MC4-4 (io), 74 I/O/MC4-11 (io), 76 I/O/MC4-6 (io), 77 I/O/MC4-7 (io), 78 I/O/MC4-14 (io), 79 I/O/MC4-18 (io), 81 I/O/MC4-10 (io), 82 I/O/MC4-12 (io), 85 I/O/MC4-13 (io), 86 I/O/MC4-16 (io), 89 I/O/MC4-15 (io), 90 I/O/MC4-17 (io)
part E pins: 45 TDI (in), 47 TMS (in), 48 TCK (in), 83 TDO (out)
part F pins: 5 VCCINT (power), 26 VCCIO (power), 38 VCCIO (power), 51 VCCIO (power), 57 VCCINT (power), 88 VCCIO (power), 98 VCCINT (power)
part G pins: 21 GND (power), 31 GND (power), 44 GND (power), 62 GND (power), 69 GND (power), 75 GND (power), 84 GND (power), 100 GND (power)
part H pins: 2 NC, 7 NC, 19 NC, 24 NC, 34 NC, 43 NC, 46 NC, 73 NC, 80 NC
part A text: BANK 1
part B text: BANK 2
part C text: BANK 3
part D text: BANK 4

## XC9572XL-10TQ100Q
designator U?
Automotive IQ FastFLASH XC900XL, 3.3V High-Performance CPLD with 72 Macrocells, 100-Pin TQFP, Q Grade; DatasheetVersion: ver1.3, May-2004; PackageVersion: ver1.2, Jun-2004; PackageReference: TQ100; PackageDescription: 100-Pin Thin Quad Flat Pack (TQ100); ComponentLink1Description: Manufacturer URL; ComponentLink1URL: http://www.xilinx.com/; ComponentLink2Description: XC9500XL Automotive IQ Datasheet; ComponentLink2URL: http://www.xilinx.com/support/documentation/data_sheets/ds108-1.pdf; ComponentLink3Description: Pinout; ComponentLink3URL: http://www.xilinx.com/support/documentation/data_sheets/ds057.pdf; ComponentLink4Description: TQ100 Package Drawing; ComponentLink4URL: http://www.xilinx.com/support/documentation/package_specs/tq100.pdf; ComponentLink5Description: Automotive IQ Documents; ComponentLink5URL: http://www.xilinx.com/support/documentation/automotive_iq_devices.htm
footprint TQ100_N (Thin QFP, 100-Leads, Body 14x14mm, Pitch 0.5mm, IPC Medium Density)
footprint TQ100_L (Thin QFP, 100-Leads, Body 14x14mm, Pitch 0.5mm, IPC High Density)
footprint TQ100_M (Thin QFP, 100-Leads, Body 14x14mm, Pitch 0.5mm, IPC Low Density)
part A pins: 13 I/O (io), 14 I/O (io), 15 I/O (io), 16 I/O (io), 17 I/O (io), 18 I/O (io), 20 I/O (io), 22 I/O,GCK1 (io), 23 I/O,GCK2 (io), 25 I/O (io), 27 I/O,GCK3 (io), 28 I/O (io), 29 I/O (io), 30 I/O (io), 33 I/O (io), 36 I/O (io), 39 I/O (io), 40 I/O (io)
part B pins: 1 I/O (io), 3 I/O,GTS1 (io), 4 I/O,GTS2 (io), 6 I/O (io), 8 I/O (io), 9 I/O (io), 10 I/O (io), 11 I/O (io), 12 I/O (io), 87 I/O (io), 91 I/O (io), 92 I/O (io), 93 I/O (io), 94 I/O (io), 95 I/O (io), 96 I/O (io), 97 I/O (io), 99 I/O,GSR (io)
part C pins: 32 I/O (io), 35 I/O (io), 37 I/O (io), 41 I/O (io), 42 I/O (io), 49 I/O (io), 50 I/O (io), 52 I/O (io), 53 I/O (io), 54 I/O (io), 55 I/O (io), 56 I/O (io), 58 I/O (io), 59 I/O (io), 60 I/O (io), 61 I/O (io), 63 I/O (io), 64 I/O (io)
part D pins: 65 I/O (io), 66 I/O (io), 67 I/O (io), 68 I/O (io), 70 I/O (io), 71 I/O (io), 72 I/O (io), 74 I/O (io), 76 I/O (io), 77 I/O (io), 78 I/O (io), 79 I/O (io), 81 I/O (io), 82 I/O (io), 85 I/O (io), 86 I/O (io), 89 I/O (io), 90 I/O (io)
part E pins: 45 TDI (in), 47 TMS (in), 48 TCK (in), 83 TDO (out)
part F pins: 5 VCCINT 3.3V (power), 26 VCCIO 2.5V/3.3V (power), 38 VCCIO 2.5V/3.3V (power), 51 VCCIO 2.5V/3.3V (power), 57 VCCINT 3.3V (power), 88 VCCIO 2.5V/3.3V (power), 98 VCCINT 3.3V (power)
part G pins: 21 GND (power), 31 GND (power), 44 GND (power), 62 GND (power), 69 GND (power), 75 GND (power), 84 GND (power), 100 GND (power)
part H pins: 2 NC, 7 NC, 19 NC, 24 NC, 34 NC, 43 NC, 46 NC, 73 NC, 80 NC
part A text: BANK 1
part B text: BANK 2
part C text: BANK 3
part D text: BANK 4

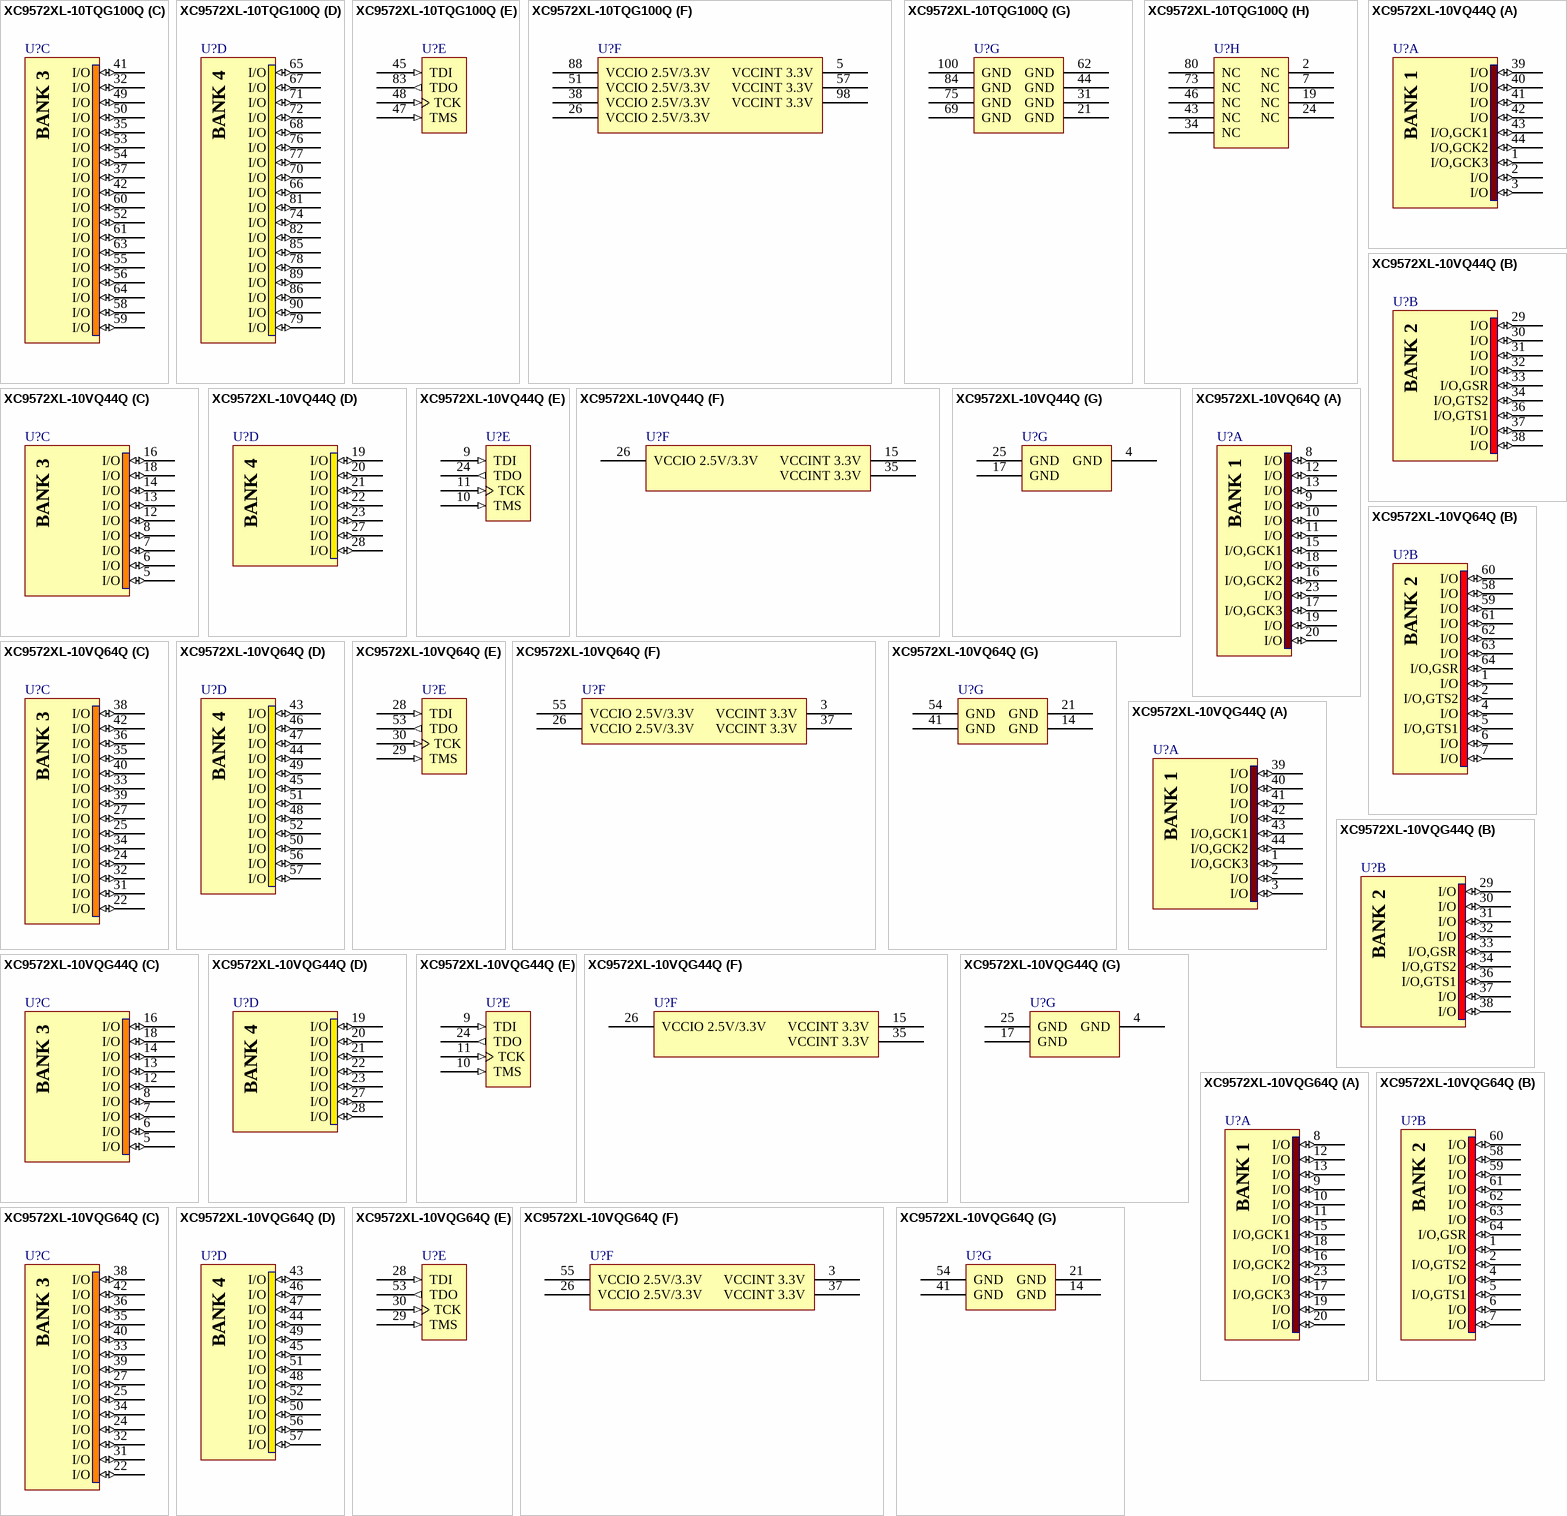
[diagram p18: symbols XC9572XL-10TQG100Q to XC9572XL-10VQG64Q]

## XC9572XL-10TQG100Q
designator U?
Automotive IQ FastFLASH XC900XL, 3.3V High-Performance CPLD with 72 Macrocells, 100-Pin TQFP, Q Grade, Pb-Free; DatasheetVersion: ver1.3, May-2004; PackageVersion: ver1.2, Jun-2004; PackageReference: TQG100; PackageDescription: 100-Pin Thin Quad Flat Pack (TQG100) - Pb-Free; ComponentLink1Description: Manufacturer URL; ComponentLink1URL: http://www.xilinx.com/; ComponentLink2Description: XC9500XL Automotive IQ Datasheet; ComponentLink2URL: http://www.xilinx.com/support/documentation/data_sheets/ds108-1.pdf; ComponentLink3Description: Pinout; ComponentLink3URL: http://www.xilinx.com/support/documentation/data_sheets/ds057.pdf; ComponentLink4Description: TQG100 Package Drawing; ComponentLink4URL: http://www.xilinx.com/support/documentation/package_specs/tq100.pdf; ComponentLink5Description: Automotive IQ Documents; ComponentLink5URL: http://www.xilinx.com/support/documentation/automotive_iq_devices.htm
footprint TQG100_N (Thin QFP, 100-Leads, Body 14x14mm, Pitch 0.5mm, IPC Medium Density)
footprint TQG100_L (Thin QFP, 100-Leads, Body 14x14mm, Pitch 0.5mm, IPC High Density)
footprint TQG100_M (Thin QFP, 100-Leads, Body 14x14mm, Pitch 0.5mm, IPC Low Density)
part A pins: 13 I/O (io), 14 I/O (io), 15 I/O (io), 16 I/O (io), 17 I/O (io), 18 I/O (io), 20 I/O (io), 22 I/O,GCK1 (io), 23 I/O,GCK2 (io), 25 I/O (io), 27 I/O,GCK3 (io), 28 I/O (io), 29 I/O (io), 30 I/O (io), 33 I/O (io), 36 I/O (io), 39 I/O (io), 40 I/O (io)
part B pins: 1 I/O (io), 3 I/O,GTS1 (io), 4 I/O,GTS2 (io), 6 I/O (io), 8 I/O (io), 9 I/O (io), 10 I/O (io), 11 I/O (io), 12 I/O (io), 87 I/O (io), 91 I/O (io), 92 I/O (io), 93 I/O (io), 94 I/O (io), 95 I/O (io), 96 I/O (io), 97 I/O (io), 99 I/O,GSR (io)
part C pins: 32 I/O (io), 35 I/O (io), 37 I/O (io), 41 I/O (io), 42 I/O (io), 49 I/O (io), 50 I/O (io), 52 I/O (io), 53 I/O (io), 54 I/O (io), 55 I/O (io), 56 I/O (io), 58 I/O (io), 59 I/O (io), 60 I/O (io), 61 I/O (io), 63 I/O (io), 64 I/O (io)
part D pins: 65 I/O (io), 66 I/O (io), 67 I/O (io), 68 I/O (io), 70 I/O (io), 71 I/O (io), 72 I/O (io), 74 I/O (io), 76 I/O (io), 77 I/O (io), 78 I/O (io), 79 I/O (io), 81 I/O (io), 82 I/O (io), 85 I/O (io), 86 I/O (io), 89 I/O (io), 90 I/O (io)
part E pins: 45 TDI (in), 47 TMS (in), 48 TCK (in), 83 TDO (out)
part F pins: 5 VCCINT 3.3V (power), 26 VCCIO 2.5V/3.3V (power), 38 VCCIO 2.5V/3.3V (power), 51 VCCIO 2.5V/3.3V (power), 57 VCCINT 3.3V (power), 88 VCCIO 2.5V/3.3V (power), 98 VCCINT 3.3V (power)
part G pins: 21 GND (power), 31 GND (power), 44 GND (power), 62 GND (power), 69 GND (power), 75 GND (power), 84 GND (power), 100 GND (power)
part H pins: 2 NC, 7 NC, 19 NC, 24 NC, 34 NC, 43 NC, 46 NC, 73 NC, 80 NC
part A text: BANK 1
part B text: BANK 2
part C text: BANK 3
part D text: BANK 4

## XC9572XL-10VQ44Q
designator U?
Automotive IQ FastFLASH XC900XL, 3.3V High-Performance CPLD with 72 Macrocells, 44-Pin VQFP, Q Grade; DatasheetVersion: ver1.3, May-2004; PackageVersion: ver1.2, Jun-2004; PackageReference: VQ44; PackageDescription: 44-Pin Very Thin Quad Flat Pack (VQ44); Code_JEDEC: MS-026-ACB; ComponentLink1Description: Manufacturer URL; ComponentLink1URL: http://www.xilinx.com/; ComponentLink2Description: XC9500XL Automotive IQ Datasheet; ComponentLink2URL: http://www.xilinx.com/support/documentation/data_sheets/ds108-1.pdf; ComponentLink3Description: Pinout; ComponentLink3URL: http://www.xilinx.com/support/documentation/data_sheets/ds057.pdf; ComponentLink4Description: VQ44 Package Drawing; ComponentLink4URL: http://www.xilinx.com/support/documentation/package_specs/vq44.pdf; ComponentLink5Description: Automotive IQ Documents; ComponentLink5URL: http://www.xilinx.com/support/documentation/automotive_iq_devices.htm
footprint VQ44_N (Thin QFP, 44-Leads, Body 10x10mm, Pitch 0.8mm, IPC Medium Density)
footprint VQ44_L (Thin QFP, 44-Leads, Body 10x10mm, Pitch 0.8mm, IPC High Density)
footprint VQ44_M (Thin QFP, 44-Leads, Body 10x10mm, Pitch 0.8mm, IPC Low Density)
part A pins: 1 I/O,GCK3 (io), 2 I/O (io), 3 I/O (io), 39 I/O (io), 40 I/O (io), 41 I/O (io), 42 I/O (io), 43 I/O,GCK1 (io), 44 I/O,GCK2 (io)
part B pins: 29 I/O (io), 30 I/O (io), 31 I/O (io), 32 I/O (io), 33 I/O,GSR (io), 34 I/O,GTS2 (io), 36 I/O,GTS1 (io), 37 I/O (io), 38 I/O (io)
part C pins: 5 I/O (io), 6 I/O (io), 7 I/O (io), 8 I/O (io), 12 I/O (io), 13 I/O (io), 14 I/O (io), 16 I/O (io), 18 I/O (io)
part D pins: 19 I/O (io), 20 I/O (io), 21 I/O (io), 22 I/O (io), 23 I/O (io), 27 I/O (io), 28 I/O (io)
part E pins: 9 TDI (in), 10 TMS (in), 11 TCK (in), 24 TDO (out)
part F pins: 15 VCCINT 3.3V (power), 26 VCCIO 2.5V/3.3V (power), 35 VCCINT 3.3V (power)
part G pins: 4 GND (power), 17 GND (power), 25 GND (power)
part A text: BANK 1
part B text: BANK 2
part C text: BANK 3
part D text: BANK 4

## XC9572XL-10VQ64Q
designator U?
Automotive IQ FastFLASH XC900XL, 3.3V High-Performance CPLD with 72 Macrocells, 64-Pin VQFP, Q Grade; DatasheetVersion: ver1.3, May-2004; PackageVersion: ver1.2, Jun-2004; PackageReference: VQ64; PackageDescription: 64-Pin Very Thin Quad Flat Pack (VQ64); Code_JEDEC: MS-026-ACD; ComponentLink1Description: Manufacturer URL; ComponentLink1URL: http://www.xilinx.com/; ComponentLink2Description: XC9500XL Automotive IQ Datasheet; ComponentLink2URL: http://www.xilinx.com/support/documentation/data_sheets/ds108-1.pdf; ComponentLink3Description: Pinout; ComponentLink3URL: http://www.xilinx.com/support/documentation/data_sheets/ds057.pdf; ComponentLink4Description: VQ64 Package Drawing; ComponentLink4URL: http://www.xilinx.com/support/documentation/package_specs/vq64.pdf; ComponentLink5Description: Automotive IQ Documents; ComponentLink5URL: http://www.xilinx.com/support/documentation/automotive_iq_devices.htm
footprint VQ64_N (Thin QFP, 64-Leads, Body 10x10mm, Pitch 0.5mm, IPC Medium Density)
footprint VQ64_L (Thin QFP, 64-Leads, Body 10x10mm, Pitch 0.5mm, IPC High Density)
footprint VQ64_M (Thin QFP, 64-Leads, Body 10x10mm, Pitch 0.5mm, IPC Low Density)
part A pins: 8 I/O (io), 9 I/O (io), 10 I/O (io), 11 I/O (io), 12 I/O (io), 13 I/O (io), 15 I/O,GCK1 (io), 16 I/O,GCK2 (io), 17 I/O,GCK3 (io), 18 I/O (io), 19 I/O (io), 20 I/O (io), 23 I/O (io)
part B pins: 1 I/O (io), 2 I/O,GTS2 (io), 4 I/O (io), 5 I/O,GTS1 (io), 6 I/O (io), 7 I/O (io), 58 I/O (io), 59 I/O (io), 60 I/O (io), 61 I/O (io), 62 I/O (io), 63 I/O (io), 64 I/O,GSR (io)
part C pins: 22 I/O (io), 24 I/O (io), 25 I/O (io), 27 I/O (io), 31 I/O (io), 32 I/O (io), 33 I/O (io), 34 I/O (io), 35 I/O (io), 36 I/O (io), 38 I/O (io), 39 I/O (io), 40 I/O (io), 42 I/O (io)
part D pins: 43 I/O (io), 44 I/O (io), 45 I/O (io), 46 I/O (io), 47 I/O (io), 48 I/O (io), 49 I/O (io), 50 I/O (io), 51 I/O (io), 52 I/O (io), 56 I/O (io), 57 I/O (io)
part E pins: 28 TDI (in), 29 TMS (in), 30 TCK (in), 53 TDO (out)
part F pins: 3 VCCINT 3.3V (power), 26 VCCIO 2.5V/3.3V (power), 37 VCCINT 3.3V (power), 55 VCCIO 2.5V/3.3V (power)
part G pins: 14 GND (power), 21 GND (power), 41 GND (power), 54 GND (power)
part A text: BANK 1
part B text: BANK 2
part C text: BANK 3
part D text: BANK 4

## XC9572XL-10VQG44Q
designator U?
Automotive IQ FastFLASH XC900XL, 3.3V High-Performance CPLD with 72 Macrocells, 44-Pin VQFP, Q Grade, Pb-Free; DatasheetVersion: ver1.3, May-2004; PackageVersion: ver1.2, Jun-2004; PackageReference: VQG44; PackageDescription: 44-Pin Very Thin Quad Flat Pack (VQG44) - Pb-Free; Code_JEDEC: MS-026-ACB; ComponentLink1Description: Manufacturer URL; ComponentLink1URL: http://www.xilinx.com/; ComponentLink2Description: XC9500XL Automotive IQ Datasheet; ComponentLink2URL: http://www.xilinx.com/support/documentation/data_sheets/ds108-1.pdf; ComponentLink3Description: Pinout; ComponentLink3URL: http://www.xilinx.com/support/documentation/data_sheets/ds057.pdf; ComponentLink4Description: VQG44 Package Drawing; ComponentLink4URL: http://www.xilinx.com/support/documentation/package_specs/vq44.pdf; ComponentLink5Description: Automotive IQ Documents; ComponentLink5URL: http://www.xilinx.com/support/documentation/automotive_iq_devices.htm
footprint VQG44_N (Thin QFP, 44-Leads, Body 10x10mm, Pitch 0.8mm, IPC Medium Density)
footprint VQG44_L (Thin QFP, 44-Leads, Body 10x10mm, Pitch 0.8mm, IPC High Density)
footprint VQG44_M (Thin QFP, 44-Leads, Body 10x10mm, Pitch 0.8mm, IPC Low Density)
part A pins: 1 I/O,GCK3 (io), 2 I/O (io), 3 I/O (io), 39 I/O (io), 40 I/O (io), 41 I/O (io), 42 I/O (io), 43 I/O,GCK1 (io), 44 I/O,GCK2 (io)
part B pins: 29 I/O (io), 30 I/O (io), 31 I/O (io), 32 I/O (io), 33 I/O,GSR (io), 34 I/O,GTS2 (io), 36 I/O,GTS1 (io), 37 I/O (io), 38 I/O (io)
part C pins: 5 I/O (io), 6 I/O (io), 7 I/O (io), 8 I/O (io), 12 I/O (io), 13 I/O (io), 14 I/O (io), 16 I/O (io), 18 I/O (io)
part D pins: 19 I/O (io), 20 I/O (io), 21 I/O (io), 22 I/O (io), 23 I/O (io), 27 I/O (io), 28 I/O (io)
part E pins: 9 TDI (in), 10 TMS (in), 11 TCK (in), 24 TDO (out)
part F pins: 15 VCCINT 3.3V (power), 26 VCCIO 2.5V/3.3V (power), 35 VCCINT 3.3V (power)
part G pins: 4 GND (power), 17 GND (power), 25 GND (power)
part A text: BANK 1
part B text: BANK 2
part C text: BANK 3
part D text: BANK 4

## XC9572XL-10VQG64Q
designator U?
Automotive IQ FastFLASH XC900XL, 3.3V High-Performance CPLD with 72 Macrocells, 64-Pin VQFP, Q Grade, Pb-Free; DatasheetVersion: ver1.3, May-2004; PackageVersion: ver1.2, Jun-2004; PackageReference: VQG64; PackageDescription: 64-Pin Very Thin Quad Flat Pack (VQG64) - Pb-Free; Code_JEDEC: MS-026-ACD; ComponentLink1Description: Manufacturer URL; ComponentLink1URL: http://www.xilinx.com/; ComponentLink2Description: XC9500XL Automotive IQ Datasheet; ComponentLink2URL: http://www.xilinx.com/support/documentation/data_sheets/ds108-1.pdf; ComponentLink3Description: Pinout; ComponentLink3URL: http://www.xilinx.com/support/documentation/data_sheets/ds057.pdf; ComponentLink4Description: VQG64 Package Drawing; ComponentLink4URL: http://www.xilinx.com/support/documentation/package_specs/vq64.pdf; ComponentLink5Description: Automotive IQ Documents; ComponentLink5URL: http://www.xilinx.com/support/documentation/automotive_iq_devices.htm
footprint VQG64_N (Thin QFP, 64-Leads, Body 10x10mm, Pitch 0.5mm, IPC Medium Density)
footprint VQG64_L (Thin QFP, 64-Leads, Body 10x10mm, Pitch 0.5mm, IPC High Density)
footprint VQG64_M (Thin QFP, 64-Leads, Body 10x10mm, Pitch 0.5mm, IPC Low Density)
part A pins: 8 I/O (io), 9 I/O (io), 10 I/O (io), 11 I/O (io), 12 I/O (io), 13 I/O (io), 15 I/O,GCK1 (io), 16 I/O,GCK2 (io), 17 I/O,GCK3 (io), 18 I/O (io), 19 I/O (io), 20 I/O (io), 23 I/O (io)
part B pins: 1 I/O (io), 2 I/O,GTS2 (io), 4 I/O (io), 5 I/O,GTS1 (io), 6 I/O (io), 7 I/O (io), 58 I/O (io), 59 I/O (io), 60 I/O (io), 61 I/O (io), 62 I/O (io), 63 I/O (io), 64 I/O,GSR (io)
part C pins: 22 I/O (io), 24 I/O (io), 25 I/O (io), 27 I/O (io), 31 I/O (io), 32 I/O (io), 33 I/O (io), 34 I/O (io), 35 I/O (io), 36 I/O (io), 38 I/O (io), 39 I/O (io), 40 I/O (io), 42 I/O (io)
part D pins: 43 I/O (io), 44 I/O (io), 45 I/O (io), 46 I/O (io), 47 I/O (io), 48 I/O (io), 49 I/O (io), 50 I/O (io), 51 I/O (io), 52 I/O (io), 56 I/O (io), 57 I/O (io)
part E pins: 28 TDI (in), 29 TMS (in), 30 TCK (in), 53 TDO (out)
part F pins: 3 VCCINT 3.3V (power), 26 VCCIO 2.5V/3.3V (power), 37 VCCINT 3.3V (power), 55 VCCIO 2.5V/3.3V (power)
part G pins: 14 GND (power), 21 GND (power), 41 GND (power), 54 GND (power)
part A text: BANK 1
part B text: BANK 2
part C text: BANK 3
part D text: BANK 4

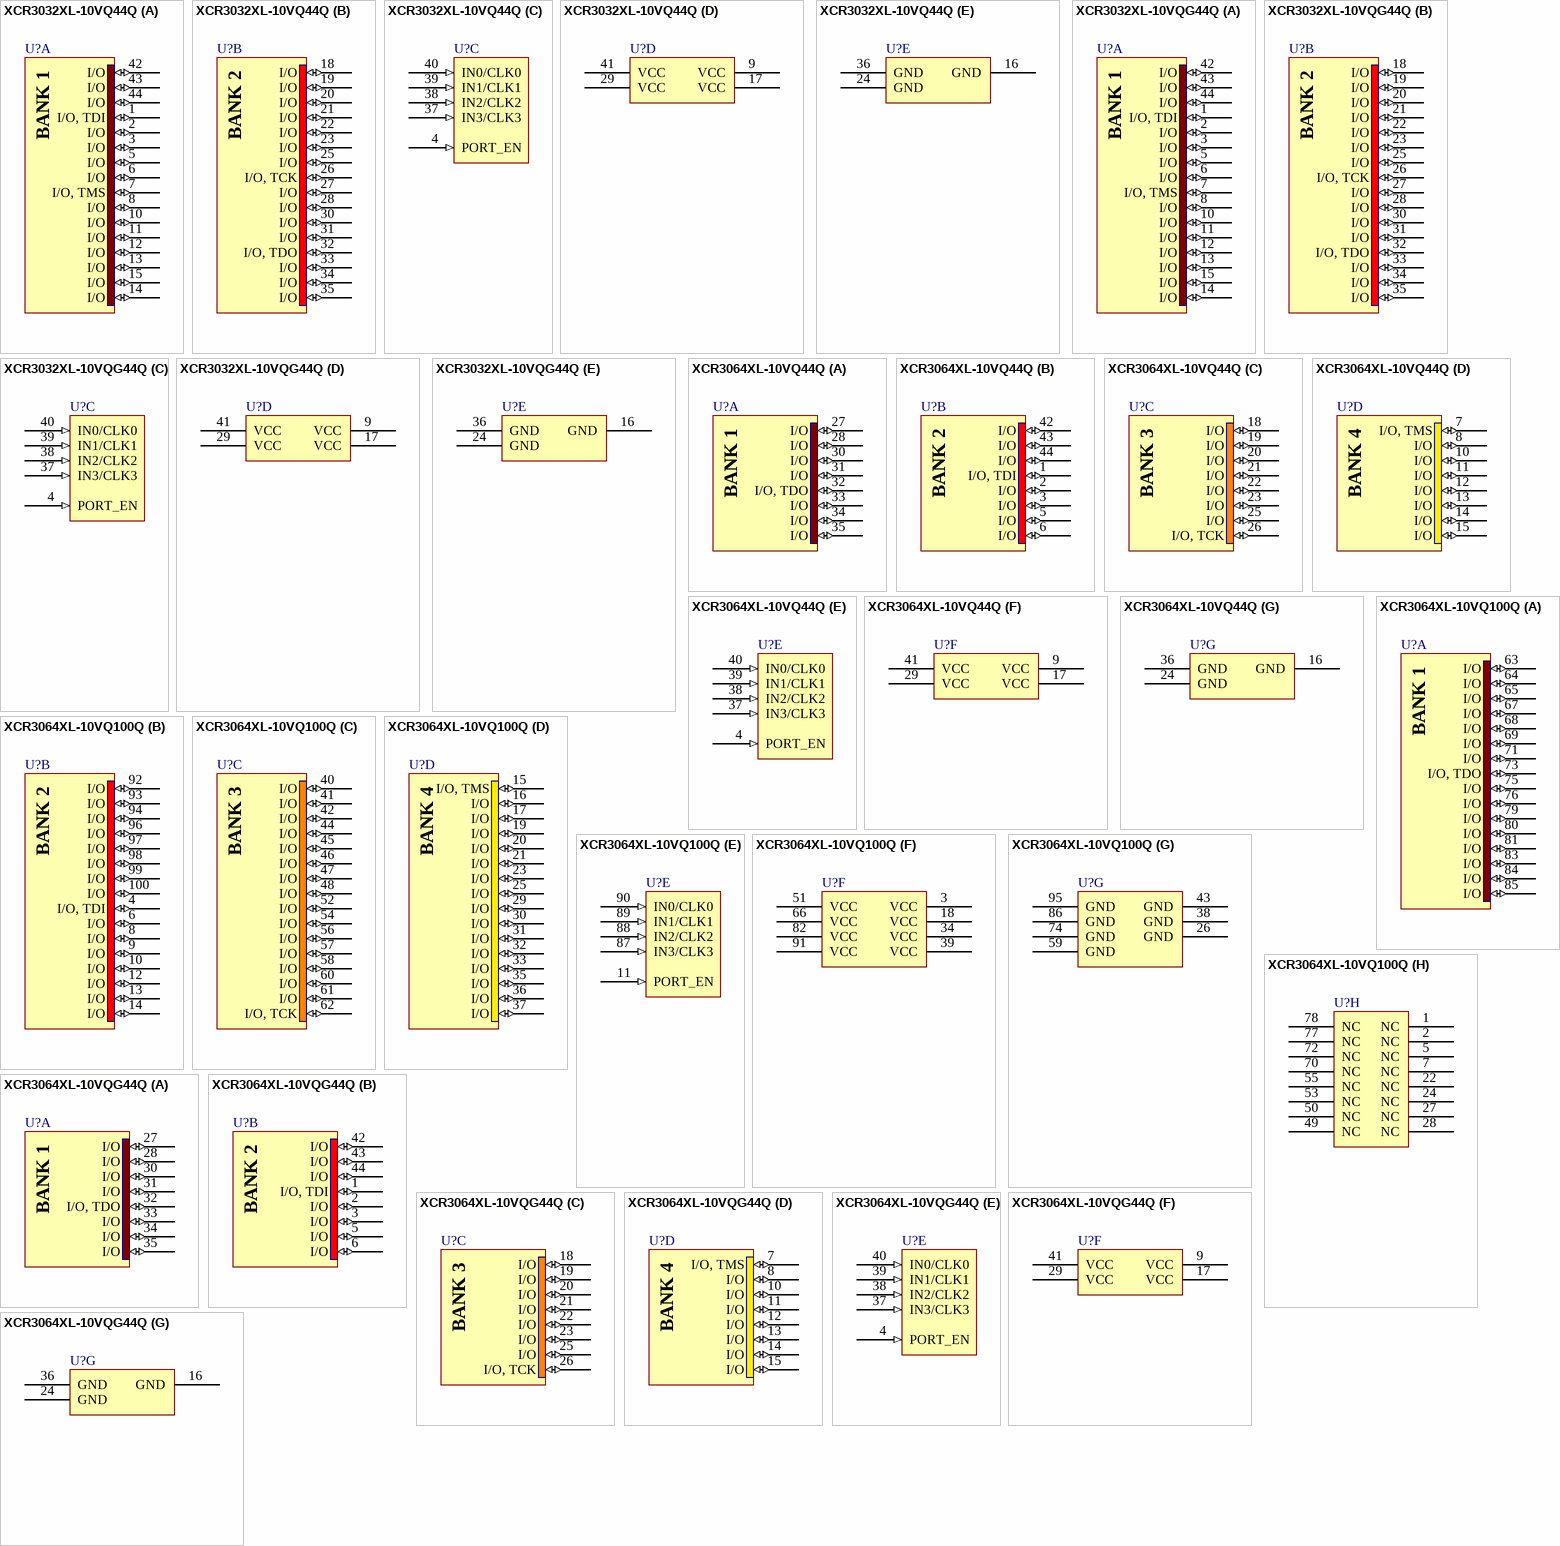
[diagram p19: symbols XCR3032XL-10VQ44Q to XCR3064XL-10VQG44Q]

## XCR3032XL-10VQ44Q
designator U?
Automotive IQ CoolRunner XPLA3 3.3V, 32 Macrocell CPLD, 36 User I/Os, 44-Pin VQFP, Q Grade; DatasheetVersion: ver1.3, Oct-2004; PackageVersion: ver1.2, Jun-2004; PackageReference: VQ44; PackageDescription: 44-Pin Very Thin Quad Flat Pack (VQ44); Code_JEDEC: MS-026-ACB; ComponentLink1Description: Manufacturer URL; ComponentLink1URL: http://www.xilinx.com/; ComponentLink2Description: CoolRunner XPLA3 Automotive IQ Datasheet; ComponentLink2URL: http://www.xilinx.com/support/documentation/data_sheets/ds109-1.pdf; ComponentLink3Description: Pinout; ComponentLink3URL: http://www.xilinx.com/support/documentation/data_sheets/ds023.pdf; ComponentLink4Description: VQ44 Package Drawing; ComponentLink4URL: http://www.xilinx.com/support/documentation/package_specs/vq44.pdf; ComponentLink5Description: Automotive IQ Documents; ComponentLink5URL: http://www.xilinx.com/support/documentation/automotive_iq_devices.htm
footprint VQ44_N (Thin QFP, 44-Leads, Body 10x10mm, Pitch 0.8mm, IPC Medium Density)
footprint VQ44_L (Thin QFP, 44-Leads, Body 10x10mm, Pitch 0.8mm, IPC High Density)
footprint VQ44_M (Thin QFP, 44-Leads, Body 10x10mm, Pitch 0.8mm, IPC Low Density)
part A pins: 1 I/O, TDI (io), 2 I/O (io), 3 I/O (io), 5 I/O (io), 6 I/O (io), 7 I/O, TMS (io), 8 I/O (io), 10 I/O (io), 11 I/O (io), 12 I/O (io), 13 I/O (io), 14 I/O (io), 15 I/O (io), 42 I/O (io), 43 I/O (io), 44 I/O (io)
part B pins: 18 I/O (io), 19 I/O (io), 20 I/O (io), 21 I/O (io), 22 I/O (io), 23 I/O (io), 25 I/O (io), 26 I/O, TCK (io), 27 I/O (io), 28 I/O (io), 30 I/O (io), 31 I/O (io), 32 I/O, TDO (io), 33 I/O (io), 34 I/O (io), 35 I/O (io)
part C pins: 4 PORT_EN (in), 37 IN3/CLK3 (in), 38 IN2/CLK2 (in), 39 IN1/CLK1 (in), 40 IN0/CLK0 (in)
part D pins: 9 VCC (power), 17 VCC (power), 29 VCC (power), 41 VCC (power)
part E pins: 16 GND (power), 24 GND (power), 36 GND (power)
part A text: BANK 1
part B text: BANK 2

## XCR3032XL-10VQG44Q
designator U?
Automotive IQ CoolRunner XPLA3 3.3V, 32 Macrocell CPLD, 36 User I/Os, 44-Pin VQFP, Q Grade, Pb-Free; DatasheetVersion: ver1.3, Oct-2004; PackageVersion: ver1.2, Jun-2004; PackageReference: VQG44; PackageDescription: 44-Pin Very Thin Quad Flat Pack (VQG44) - Pb-Free; Code_JEDEC: MS-026-ACB; ComponentLink1Description: Manufacturer URL; ComponentLink1URL: http://www.xilinx.com/; ComponentLink2Description: CoolRunner XPLA3 Automotive IQ Datasheet; ComponentLink2URL: http://www.xilinx.com/support/documentation/data_sheets/ds109-1.pdf; ComponentLink3Description: Pinout; ComponentLink3URL: http://www.xilinx.com/support/documentation/data_sheets/ds023.pdf; ComponentLink4Description: VQG44 Package Drawing; ComponentLink4URL: http://www.xilinx.com/support/documentation/package_specs/vq44.pdf; ComponentLink5Description: Automotive IQ Documents; ComponentLink5URL: http://www.xilinx.com/support/documentation/automotive_iq_devices.htm
footprint VQG44_N (Thin QFP, 44-Leads, Body 10x10mm, Pitch 0.8mm, IPC Medium Density)
footprint VQG44_L (Thin QFP, 44-Leads, Body 10x10mm, Pitch 0.8mm, IPC High Density)
footprint VQG44_M (Thin QFP, 44-Leads, Body 10x10mm, Pitch 0.8mm, IPC Low Density)
part A pins: 1 I/O, TDI (io), 2 I/O (io), 3 I/O (io), 5 I/O (io), 6 I/O (io), 7 I/O, TMS (io), 8 I/O (io), 10 I/O (io), 11 I/O (io), 12 I/O (io), 13 I/O (io), 14 I/O (io), 15 I/O (io), 42 I/O (io), 43 I/O (io), 44 I/O (io)
part B pins: 18 I/O (io), 19 I/O (io), 20 I/O (io), 21 I/O (io), 22 I/O (io), 23 I/O (io), 25 I/O (io), 26 I/O, TCK (io), 27 I/O (io), 28 I/O (io), 30 I/O (io), 31 I/O (io), 32 I/O, TDO (io), 33 I/O (io), 34 I/O (io), 35 I/O (io)
part C pins: 4 PORT_EN (in), 37 IN3/CLK3 (in), 38 IN2/CLK2 (in), 39 IN1/CLK1 (in), 40 IN0/CLK0 (in)
part D pins: 9 VCC (power), 17 VCC (power), 29 VCC (power), 41 VCC (power)
part E pins: 16 GND (power), 24 GND (power), 36 GND (power)
part A text: BANK 1
part B text: BANK 2

## XCR3064XL-10VQ44Q
designator U?
Automotive IQ CoolRunner XPLA3 3.3V, 64 Macrocell CPLD, 36 User I/Os, 44-Pin VQFP, Q Grade; DatasheetVersion: ver1.3, Oct-2004; PackageVersion: ver1.2, Jun-2004; PackageReference: VQ44; PackageDescription: 44-Pin Very Thin Quad Flat Pack (VQ44); Code_JEDEC: MS-026-ACB; ComponentLink1Description: Manufacturer URL; ComponentLink1URL: http://www.xilinx.com/; ComponentLink2Description: CoolRunner XPLA3 Automotive IQ Datasheet; ComponentLink2URL: http://www.xilinx.com/support/documentation/data_sheets/ds109-1.pdf; ComponentLink3Description: Pinout; ComponentLink3URL: http://www.xilinx.com/support/documentation/data_sheets/ds017.pdf; ComponentLink4Description: VQ44 Package Drawing; ComponentLink4URL: http://www.xilinx.com/support/documentation/package_specs/vq44.pdf; ComponentLink5Description: Automotive IQ Documents; ComponentLink5URL: http://www.xilinx.com/support/documentation/automotive_iq_devices.htm
footprint VQ44_N (Thin QFP, 44-Leads, Body 10x10mm, Pitch 0.8mm, IPC Medium Density)
footprint VQ44_L (Thin QFP, 44-Leads, Body 10x10mm, Pitch 0.8mm, IPC High Density)
footprint VQ44_M (Thin QFP, 44-Leads, Body 10x10mm, Pitch 0.8mm, IPC Low Density)
part A pins: 27 I/O (io), 28 I/O (io), 30 I/O (io), 31 I/O (io), 32 I/O, TDO (io), 33 I/O (io), 34 I/O (io), 35 I/O (io)
part B pins: 1 I/O, TDI (io), 2 I/O (io), 3 I/O (io), 5 I/O (io), 6 I/O (io), 42 I/O (io), 43 I/O (io), 44 I/O (io)
part C pins: 18 I/O (io), 19 I/O (io), 20 I/O (io), 21 I/O (io), 22 I/O (io), 23 I/O (io), 25 I/O (io), 26 I/O, TCK (io)
part D pins: 7 I/O, TMS (io), 8 I/O (io), 10 I/O (io), 11 I/O (io), 12 I/O (io), 13 I/O (io), 14 I/O (io), 15 I/O (io)
part E pins: 4 PORT_EN (in), 37 IN3/CLK3 (in), 38 IN2/CLK2 (in), 39 IN1/CLK1 (in), 40 IN0/CLK0 (in)
part F pins: 9 VCC (power), 17 VCC (power), 29 VCC (power), 41 VCC (power)
part G pins: 16 GND (power), 24 GND (power), 36 GND (power)
part A text: BANK 1
part B text: BANK 2
part C text: BANK 3
part D text: BANK 4